# Altium schematic symbol library MCU_ST_STM32L0.SchLib: 245 symbols (part 1 of 5)
Pins are listed as number, name and electrical type; pins without a type are passive.

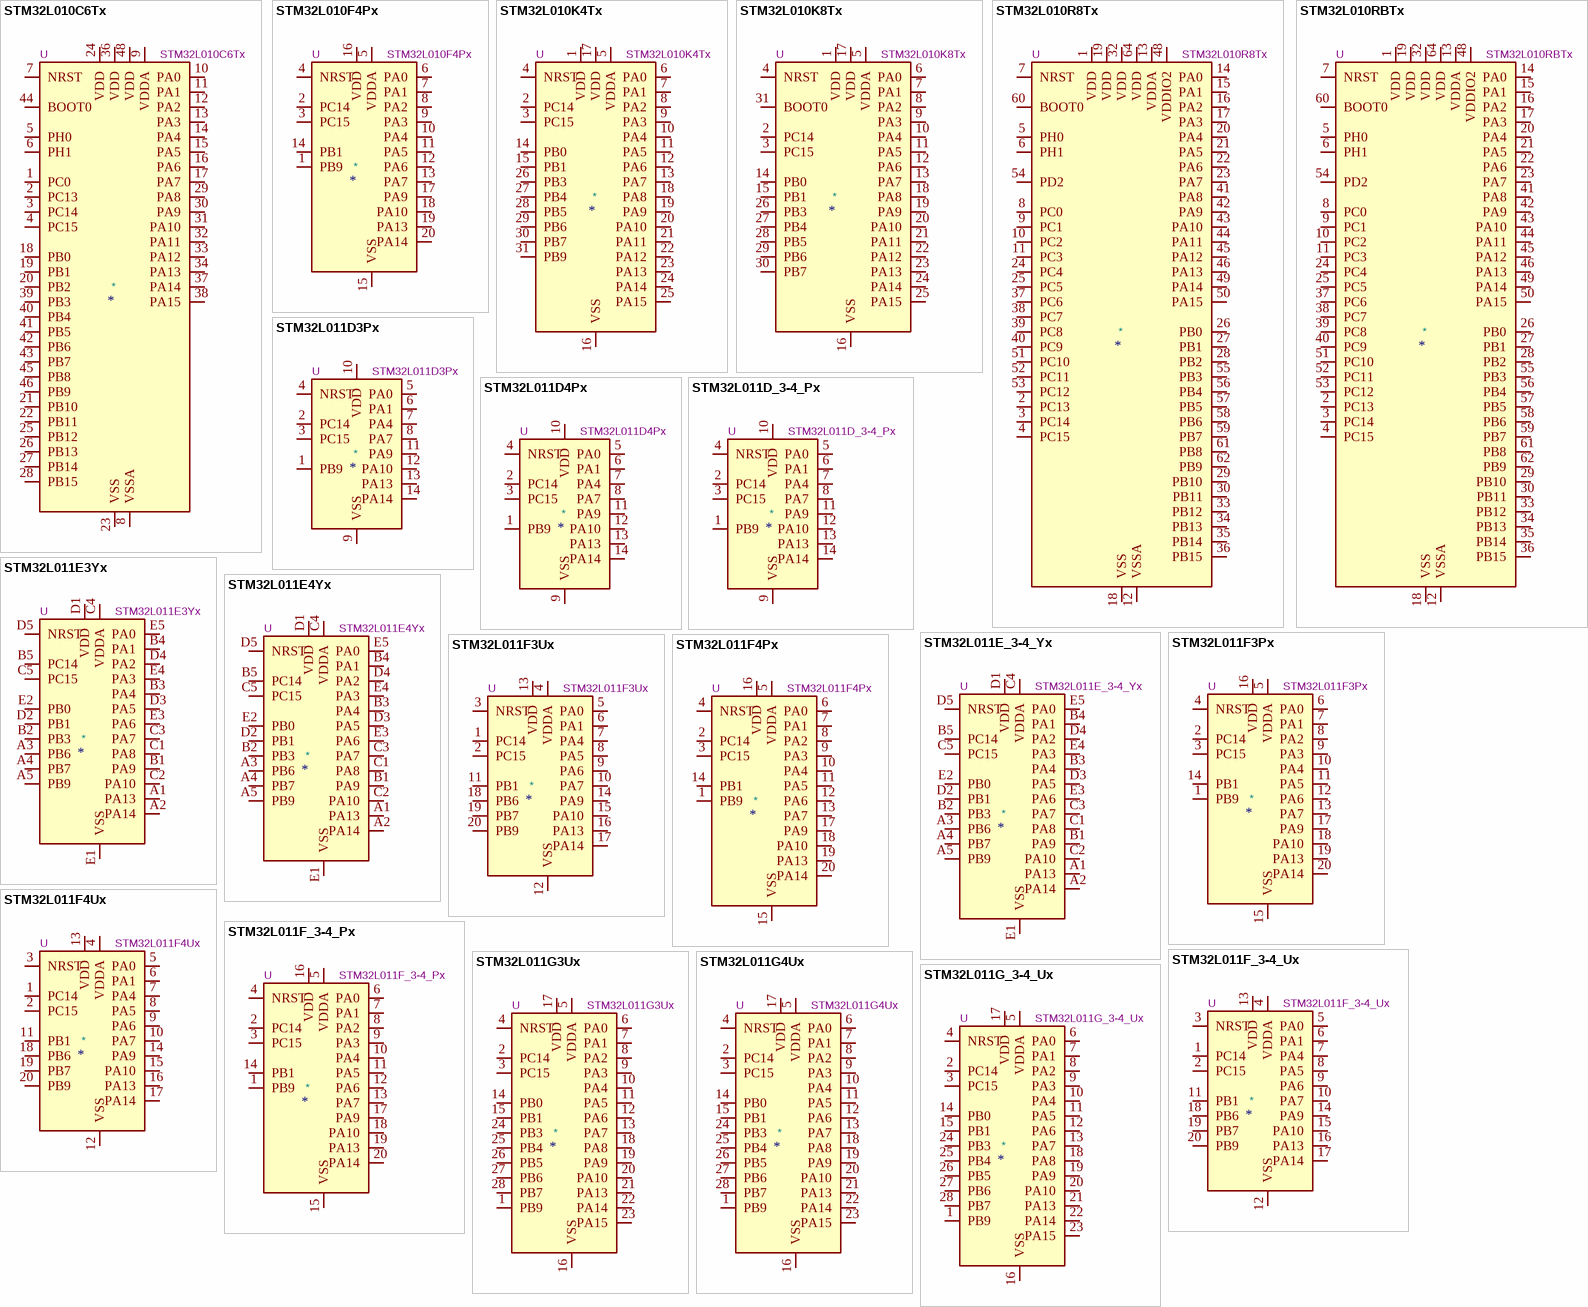
[diagram p0: symbols STM32L010C6Tx to STM32L011G_3-4_Ux]

## STM32L010C6Tx
designator *  value STM32L010C6Tx  Reference: U
ki_keywords: Arm Cortex-M0+ STM32L0 STM32L0x0 Value Line; ki_description: STMicroelectronics Arm Cortex-M0+ MCU, 32KB flash, 8KB RAM, 32 MHz, 1.8-3.6V, 38 GPIO, LQFP48; ki_fp_filters: LQFP*7x7mm*P0.5mm*; Footprint: Package_QFP:LQFP-48_7x7mm_P0.5mm; Datasheet: https://www.st.com/resource/en/datasheet/stm32l010c6.pdf
pins: 1 PC0, 2 PC13, 3 PC14, 4 PC15, 5 PH0, 6 PH1, 7 NRST, 8 VSSA, 9 VDDA, 10 PA0, 11 PA1, 12 PA2, 13 PA3, 14 PA4, 15 PA5, 16 PA6, 17 PA7, 18 PB0, 19 PB1, 20 PB2, 21 PB10, 22 PB11, 23 VSS, 24 VDD, 25 PB12, 26 PB13, 27 PB14, 28 PB15, 29 PA8, 30 PA9, 31 PA10, 32 PA11, 33 PA12, 34 PA13, 35 VSS hidden, 36 VDD, 37 PA14, 38 PA15, 39 PB3, 40 PB4, 41 PB5, 42 PB6, 43 PB7, 44 BOOT0, 45 PB8, 46 PB9, 47 VSS hidden, 48 VDD

## STM32L010F4Px
designator *  value STM32L010F4Px  Reference: U
ki_keywords: Arm Cortex-M0+ STM32L0 STM32L0x0 Value Line; ki_description: STMicroelectronics Arm Cortex-M0+ MCU, 16KB flash, 2KB RAM, 32 MHz, 1.8-3.6V, 16 GPIO, TSSOP20; ki_fp_filters: TSSOP*4.4x6.5mm*P0.65mm*; Footprint: Package_SO:TSSOP-20_4.4x6.5mm_P0.65mm; Datasheet: https://www.st.com/resource/en/datasheet/stm32l010f4.pdf
pins: 1 PB9, 2 PC14, 3 PC15, 4 NRST, 5 VDDA, 6 PA0, 7 PA1, 8 PA2, 9 PA3, 10 PA4, 11 PA5, 12 PA6, 13 PA7, 14 PB1, 15 VSS, 16 VDD, 17 PA9, 18 PA10, 19 PA13, 20 PA14

## STM32L010K4Tx
designator *  value STM32L010K4Tx  Reference: U
ki_keywords: Arm Cortex-M0+ STM32L0 STM32L0x0 Value Line; ki_description: STMicroelectronics Arm Cortex-M0+ MCU, 16KB flash, 2KB RAM, 32 MHz, 1.8-3.6V, 26 GPIO, LQFP32; ki_fp_filters: LQFP*7x7mm*P0.8mm*; Footprint: Package_QFP:LQFP-32_7x7mm_P0.8mm; Datasheet: https://www.st.com/resource/en/datasheet/stm32l010k4.pdf
pins: 1 VDD, 2 PC14, 3 PC15, 4 NRST, 5 VDDA, 6 PA0, 7 PA1, 8 PA2, 9 PA3, 10 PA4, 11 PA5, 12 PA6, 13 PA7, 14 PB0, 15 PB1, 16 VSS, 17 VDD, 18 PA8, 19 PA9, 20 PA10, 21 PA11, 22 PA12, 23 PA13, 24 PA14, 25 PA15, 26 PB3, 27 PB4, 28 PB5, 29 PB6, 30 PB7, 31 PB9, 32 VSS hidden

## STM32L010K8Tx
designator *  value STM32L010K8Tx  Reference: U
ki_keywords: Arm Cortex-M0+ STM32L0 STM32L0x0 Value Line; ki_description: STMicroelectronics Arm Cortex-M0+ MCU, 64KB flash, 8KB RAM, 32 MHz, 1.8-3.6V, 25 GPIO, LQFP32; ki_fp_filters: LQFP*7x7mm*P0.8mm*; Footprint: Package_QFP:LQFP-32_7x7mm_P0.8mm; Datasheet: https://www.st.com/resource/en/datasheet/stm32l010k8.pdf
pins: 1 VDD, 2 PC14, 3 PC15, 4 NRST, 5 VDDA, 6 PA0, 7 PA1, 8 PA2, 9 PA3, 10 PA4, 11 PA5, 12 PA6, 13 PA7, 14 PB0, 15 PB1, 16 VSS, 17 VDD, 18 PA8, 19 PA9, 20 PA10, 21 PA11, 22 PA12, 23 PA13, 24 PA14, 25 PA15, 26 PB3, 27 PB4, 28 PB5, 29 PB6, 30 PB7, 31 BOOT0, 32 VSS hidden

## STM32L010R8Tx
designator *  value STM32L010R8Tx  Reference: U
ki_keywords: Arm Cortex-M0+ STM32L0 STM32L0x0 Value Line; ki_description: STMicroelectronics Arm Cortex-M0+ MCU, 64KB flash, 8KB RAM, 32 MHz, 1.8-3.6V, 51 GPIO, LQFP64; ki_fp_filters: LQFP*10x10mm*P0.5mm*; Footprint: Package_QFP:LQFP-64_10x10mm_P0.5mm; Datasheet: https://www.st.com/resource/en/datasheet/stm32l010r8.pdf
pins: 1 VDD, 2 PC13, 3 PC14, 4 PC15, 5 PH0, 6 PH1, 7 NRST, 8 PC0, 9 PC1, 10 PC2, 11 PC3, 12 VSSA, 13 VDDA, 14 PA0, 15 PA1, 16 PA2, 17 PA3, 18 VSS, 19 VDD, 20 PA4, 21 PA5, 22 PA6, 23 PA7, 24 PC4, 25 PC5, 26 PB0, 27 PB1, 28 PB2, 29 PB10, 30 PB11, 31 VSS hidden, 32 VDD, 33 PB12, 34 PB13, 35 PB14, 36 PB15, 37 PC6, 38 PC7, 39 PC8, 40 PC9, 41 PA8, 42 PA9, 43 PA10, 44 PA11, 45 PA12, 46 PA13, 47 VSS hidden, 48 VDDIO2, 49 PA14, 50 PA15, 51 PC10, 52 PC11, 53 PC12, 54 PD2, 55 PB3, 56 PB4, 57 PB5, 58 PB6, 59 PB7, 60 BOOT0, 61 PB8, 62 PB9, 63 VSS hidden, 64 VDD

## STM32L010RBTx
designator *  value STM32L010RBTx  Reference: U
ki_keywords: Arm Cortex-M0+ STM32L0 STM32L0x0 Value Line; ki_description: STMicroelectronics Arm Cortex-M0+ MCU, 128KB flash, 20KB RAM, 32 MHz, 1.8-3.6V, 51 GPIO, LQFP64; ki_fp_filters: LQFP*10x10mm*P0.5mm*; Footprint: Package_QFP:LQFP-64_10x10mm_P0.5mm; Datasheet: https://www.st.com/resource/en/datasheet/stm32l010rb.pdf
pins: 1 VDD, 2 PC13, 3 PC14, 4 PC15, 5 PH0, 6 PH1, 7 NRST, 8 PC0, 9 PC1, 10 PC2, 11 PC3, 12 VSSA, 13 VDDA, 14 PA0, 15 PA1, 16 PA2, 17 PA3, 18 VSS, 19 VDD, 20 PA4, 21 PA5, 22 PA6, 23 PA7, 24 PC4, 25 PC5, 26 PB0, 27 PB1, 28 PB2, 29 PB10, 30 PB11, 31 VSS hidden, 32 VDD, 33 PB12, 34 PB13, 35 PB14, 36 PB15, 37 PC6, 38 PC7, 39 PC8, 40 PC9, 41 PA8, 42 PA9, 43 PA10, 44 PA11, 45 PA12, 46 PA13, 47 VSS hidden, 48 VDDIO2, 49 PA14, 50 PA15, 51 PC10, 52 PC11, 53 PC12, 54 PD2, 55 PB3, 56 PB4, 57 PB5, 58 PB6, 59 PB7, 60 BOOT0, 61 PB8, 62 PB9, 63 VSS hidden, 64 VDD

## STM32L011D3Px
designator *  value STM32L011D3Px  Reference: U
ki_keywords: Arm Cortex-M0+ STM32L0 STM32L0x1; ki_description: STMicroelectronics Arm Cortex-M0+ MCU, 8KB flash, 2KB RAM, 32 MHz, 1.65-3.6V, 11 GPIO, TSSOP14; ki_fp_filters: TSSOP*4.4x5mm*P0.65mm*; Footprint: Package_SO:TSSOP-14_4.4x5mm_P0.65mm; Datasheet: https://www.st.com/resource/en/datasheet/stm32l011d3.pdf
pins: 1 PB9, 2 PC14, 3 PC15, 4 NRST, 5 PA0, 6 PA1, 7 PA4, 8 PA7, 9 VSS, 10 VDD, 11 PA9, 12 PA10, 13 PA13, 14 PA14

## STM32L011D4Px
designator *  value STM32L011D4Px  Reference: U
ki_keywords: Arm Cortex-M0+ STM32L0 STM32L0x1; ki_description: STMicroelectronics Arm Cortex-M0+ MCU, 16KB flash, 2KB RAM, 32 MHz, 1.65-3.6V, 11 GPIO, TSSOP14; ki_fp_filters: TSSOP*4.4x5mm*P0.65mm*; Footprint: Package_SO:TSSOP-14_4.4x5mm_P0.65mm; Datasheet: https://www.st.com/resource/en/datasheet/stm32l011d4.pdf
pins: 1 PB9, 2 PC14, 3 PC15, 4 NRST, 5 PA0, 6 PA1, 7 PA4, 8 PA7, 9 VSS, 10 VDD, 11 PA9, 12 PA10, 13 PA13, 14 PA14

## STM32L011D_3-4_Px
designator *  value STM32L011D_3-4_Px  Reference: U
ki_keywords: Arm Cortex-M0+ STM32L0 STM32L0x1; ki_description: STMicroelectronics Arm Cortex-M0+ MCU, 8-16KB flash, 2KB RAM, 32 MHz, 1.65-3.6V, 11 GPIO, TSSOP14; ki_fp_filters: TSSOP*4.4x5mm*P0.65mm*; Footprint: Package_SO:TSSOP-14_4.4x5mm_P0.65mm; Datasheet: https://www.st.com/resource/en/datasheet/stm32l011d3.pdf
pins: 1 PB9, 2 PC14, 3 PC15, 4 NRST, 5 PA0, 6 PA1, 7 PA4, 8 PA7, 9 VSS, 10 VDD, 11 PA9, 12 PA10, 13 PA13, 14 PA14

## STM32L011E3Yx
designator *  value STM32L011E3Yx  Reference: U
ki_keywords: Arm Cortex-M0+ STM32L0 STM32L0x1; ki_description: STMicroelectronics Arm Cortex-M0+ MCU, 8KB flash, 2KB RAM, 32 MHz, 1.65-3.6V, 21 GPIO, WLCSP25; ki_fp_filters: ST*WLCSP*Die457*; Footprint: Package_CSP:ST_WLCSP-25_Die457; Datasheet: https://www.st.com/resource/en/datasheet/stm32l011e3.pdf
pins: A1 PA13, A2 PA14, A3 PB6, A4 PB7, A5 PB9, B1 PA9, B2 PB3, B3 PA4, B4 PA1, B5 PC14, C1 PA8, C2 PA10, C3 PA7, C4 VDDA, C5 PC15, D1 VDD, D2 PB1, D3 PA5, D4 PA2, D5 NRST, E1 VSS, E2 PB0, E3 PA6, E4 PA3, E5 PA0

## STM32L011E4Yx
designator *  value STM32L011E4Yx  Reference: U
ki_keywords: Arm Cortex-M0+ STM32L0 STM32L0x1; ki_description: STMicroelectronics Arm Cortex-M0+ MCU, 16KB flash, 2KB RAM, 32 MHz, 1.65-3.6V, 21 GPIO, WLCSP25; ki_fp_filters: ST*WLCSP*Die457*; Footprint: Package_CSP:ST_WLCSP-25_Die457; Datasheet: https://www.st.com/resource/en/datasheet/stm32l011e4.pdf
pins: A1 PA13, A2 PA14, A3 PB6, A4 PB7, A5 PB9, B1 PA9, B2 PB3, B3 PA4, B4 PA1, B5 PC14, C1 PA8, C2 PA10, C3 PA7, C4 VDDA, C5 PC15, D1 VDD, D2 PB1, D3 PA5, D4 PA2, D5 NRST, E1 VSS, E2 PB0, E3 PA6, E4 PA3, E5 PA0

## STM32L011E_3-4_Yx
designator *  value STM32L011E_3-4_Yx  Reference: U
ki_keywords: Arm Cortex-M0+ STM32L0 STM32L0x1; ki_description: STMicroelectronics Arm Cortex-M0+ MCU, 8-16KB flash, 2KB RAM, 32 MHz, 1.65-3.6V, 21 GPIO, WLCSP25; ki_fp_filters: ST*WLCSP*Die457*; Footprint: Package_CSP:ST_WLCSP-25_Die457; Datasheet: https://www.st.com/resource/en/datasheet/stm32l011e3.pdf
pins: A1 PA13, A2 PA14, A3 PB6, A4 PB7, A5 PB9, B1 PA9, B2 PB3, B3 PA4, B4 PA1, B5 PC14, C1 PA8, C2 PA10, C3 PA7, C4 VDDA, C5 PC15, D1 VDD, D2 PB1, D3 PA5, D4 PA2, D5 NRST, E1 VSS, E2 PB0, E3 PA6, E4 PA3, E5 PA0

## STM32L011F3Px
designator *  value STM32L011F3Px  Reference: U
ki_keywords: Arm Cortex-M0+ STM32L0 STM32L0x1; ki_description: STMicroelectronics Arm Cortex-M0+ MCU, 8KB flash, 2KB RAM, 32 MHz, 1.65-3.6V, 16 GPIO, TSSOP20; ki_fp_filters: TSSOP*4.4x6.5mm*P0.65mm*; Footprint: Package_SO:TSSOP-20_4.4x6.5mm_P0.65mm; Datasheet: https://www.st.com/resource/en/datasheet/stm32l011f3.pdf
pins: 1 PB9, 2 PC14, 3 PC15, 4 NRST, 5 VDDA, 6 PA0, 7 PA1, 8 PA2, 9 PA3, 10 PA4, 11 PA5, 12 PA6, 13 PA7, 14 PB1, 15 VSS, 16 VDD, 17 PA9, 18 PA10, 19 PA13, 20 PA14

## STM32L011F3Ux
designator *  value STM32L011F3Ux  Reference: U
ki_keywords: Arm Cortex-M0+ STM32L0 STM32L0x1; ki_description: STMicroelectronics Arm Cortex-M0+ MCU, 8KB flash, 2KB RAM, 32 MHz, 1.65-3.6V, 16 GPIO, UFQFPN20; ki_fp_filters: ST*UFQFPN*3x3mm*P0.5mm*; Footprint: Package_DFN_QFN:ST_UFQFPN-20_3x3mm_P0.5mm; Datasheet: https://www.st.com/resource/en/datasheet/stm32l011f3.pdf
pins: 1 PC14, 2 PC15, 3 NRST, 4 VDDA, 5 PA0, 6 PA1, 7 PA4, 8 PA5, 9 PA6, 10 PA7, 11 PB1, 12 VSS, 13 VDD, 14 PA9, 15 PA10, 16 PA13, 17 PA14, 18 PB6, 19 PB7, 20 PB9

## STM32L011F4Px
designator *  value STM32L011F4Px  Reference: U
ki_keywords: Arm Cortex-M0+ STM32L0 STM32L0x1; ki_description: STMicroelectronics Arm Cortex-M0+ MCU, 16KB flash, 2KB RAM, 32 MHz, 1.65-3.6V, 16 GPIO, TSSOP20; ki_fp_filters: TSSOP*4.4x6.5mm*P0.65mm*; Footprint: Package_SO:TSSOP-20_4.4x6.5mm_P0.65mm; Datasheet: https://www.st.com/resource/en/datasheet/stm32l011f4.pdf
pins: 1 PB9, 2 PC14, 3 PC15, 4 NRST, 5 VDDA, 6 PA0, 7 PA1, 8 PA2, 9 PA3, 10 PA4, 11 PA5, 12 PA6, 13 PA7, 14 PB1, 15 VSS, 16 VDD, 17 PA9, 18 PA10, 19 PA13, 20 PA14

## STM32L011F4Ux
designator *  value STM32L011F4Ux  Reference: U
ki_keywords: Arm Cortex-M0+ STM32L0 STM32L0x1; ki_description: STMicroelectronics Arm Cortex-M0+ MCU, 16KB flash, 2KB RAM, 32 MHz, 1.65-3.6V, 16 GPIO, UFQFPN20; ki_fp_filters: ST*UFQFPN*3x3mm*P0.5mm*; Footprint: Package_DFN_QFN:ST_UFQFPN-20_3x3mm_P0.5mm; Datasheet: https://www.st.com/resource/en/datasheet/stm32l011f4.pdf
pins: 1 PC14, 2 PC15, 3 NRST, 4 VDDA, 5 PA0, 6 PA1, 7 PA4, 8 PA5, 9 PA6, 10 PA7, 11 PB1, 12 VSS, 13 VDD, 14 PA9, 15 PA10, 16 PA13, 17 PA14, 18 PB6, 19 PB7, 20 PB9

## STM32L011F_3-4_Px
designator *  value STM32L011F_3-4_Px  Reference: U
ki_keywords: Arm Cortex-M0+ STM32L0 STM32L0x1; ki_description: STMicroelectronics Arm Cortex-M0+ MCU, 8-16KB flash, 2KB RAM, 32 MHz, 1.65-3.6V, 16 GPIO, TSSOP20; ki_fp_filters: TSSOP*4.4x6.5mm*P0.65mm*; Footprint: Package_SO:TSSOP-20_4.4x6.5mm_P0.65mm; Datasheet: https://www.st.com/resource/en/datasheet/stm32l011f3.pdf
pins: 1 PB9, 2 PC14, 3 PC15, 4 NRST, 5 VDDA, 6 PA0, 7 PA1, 8 PA2, 9 PA3, 10 PA4, 11 PA5, 12 PA6, 13 PA7, 14 PB1, 15 VSS, 16 VDD, 17 PA9, 18 PA10, 19 PA13, 20 PA14

## STM32L011F_3-4_Ux
designator *  value STM32L011F_3-4_Ux  Reference: U
ki_keywords: Arm Cortex-M0+ STM32L0 STM32L0x1; ki_description: STMicroelectronics Arm Cortex-M0+ MCU, 8-16KB flash, 2KB RAM, 32 MHz, 1.65-3.6V, 16 GPIO, UFQFPN20; ki_fp_filters: ST*UFQFPN*3x3mm*P0.5mm*; Footprint: Package_DFN_QFN:ST_UFQFPN-20_3x3mm_P0.5mm; Datasheet: https://www.st.com/resource/en/datasheet/stm32l011f3.pdf
pins: 1 PC14, 2 PC15, 3 NRST, 4 VDDA, 5 PA0, 6 PA1, 7 PA4, 8 PA5, 9 PA6, 10 PA7, 11 PB1, 12 VSS, 13 VDD, 14 PA9, 15 PA10, 16 PA13, 17 PA14, 18 PB6, 19 PB7, 20 PB9

## STM32L011G3Ux
designator *  value STM32L011G3Ux  Reference: U
ki_keywords: Arm Cortex-M0+ STM32L0 STM32L0x1; ki_description: STMicroelectronics Arm Cortex-M0+ MCU, 8KB flash, 2KB RAM, 32 MHz, 1.65-3.6V, 24 GPIO, UFQFPN28; ki_fp_filters: QFN*4x4mm*P0.5mm*; Footprint: Package_DFN_QFN:QFN-28_4x4mm_P0.5mm; Datasheet: https://www.st.com/resource/en/datasheet/stm32l011g3.pdf
pins: 1 PB9, 2 PC14, 3 PC15, 4 NRST, 5 VDDA, 6 PA0, 7 PA1, 8 PA2, 9 PA3, 10 PA4, 11 PA5, 12 PA6, 13 PA7, 14 PB0, 15 PB1, 16 VSS, 17 VDD, 18 PA8, 19 PA9, 20 PA10, 21 PA13, 22 PA14, 23 PA15, 24 PB3, 25 PB4, 26 PB5, 27 PB6, 28 PB7

## STM32L011G4Ux
designator *  value STM32L011G4Ux  Reference: U
ki_keywords: Arm Cortex-M0+ STM32L0 STM32L0x1; ki_description: STMicroelectronics Arm Cortex-M0+ MCU, 16KB flash, 2KB RAM, 32 MHz, 1.65-3.6V, 24 GPIO, UFQFPN28; ki_fp_filters: QFN*4x4mm*P0.5mm*; Footprint: Package_DFN_QFN:QFN-28_4x4mm_P0.5mm; Datasheet: https://www.st.com/resource/en/datasheet/stm32l011g4.pdf
pins: 1 PB9, 2 PC14, 3 PC15, 4 NRST, 5 VDDA, 6 PA0, 7 PA1, 8 PA2, 9 PA3, 10 PA4, 11 PA5, 12 PA6, 13 PA7, 14 PB0, 15 PB1, 16 VSS, 17 VDD, 18 PA8, 19 PA9, 20 PA10, 21 PA13, 22 PA14, 23 PA15, 24 PB3, 25 PB4, 26 PB5, 27 PB6, 28 PB7

## STM32L011G_3-4_Ux
designator *  value STM32L011G_3-4_Ux  Reference: U
ki_keywords: Arm Cortex-M0+ STM32L0 STM32L0x1; ki_description: STMicroelectronics Arm Cortex-M0+ MCU, 8-16KB flash, 2KB RAM, 32 MHz, 1.65-3.6V, 24 GPIO, UFQFPN28; ki_fp_filters: QFN*4x4mm*P0.5mm*; Footprint: Package_DFN_QFN:QFN-28_4x4mm_P0.5mm; Datasheet: https://www.st.com/resource/en/datasheet/stm32l011g3.pdf
pins: 1 PB9, 2 PC14, 3 PC15, 4 NRST, 5 VDDA, 6 PA0, 7 PA1, 8 PA2, 9 PA3, 10 PA4, 11 PA5, 12 PA6, 13 PA7, 14 PB0, 15 PB1, 16 VSS, 17 VDD, 18 PA8, 19 PA9, 20 PA10, 21 PA13, 22 PA14, 23 PA15, 24 PB3, 25 PB4, 26 PB5, 27 PB6, 28 PB7

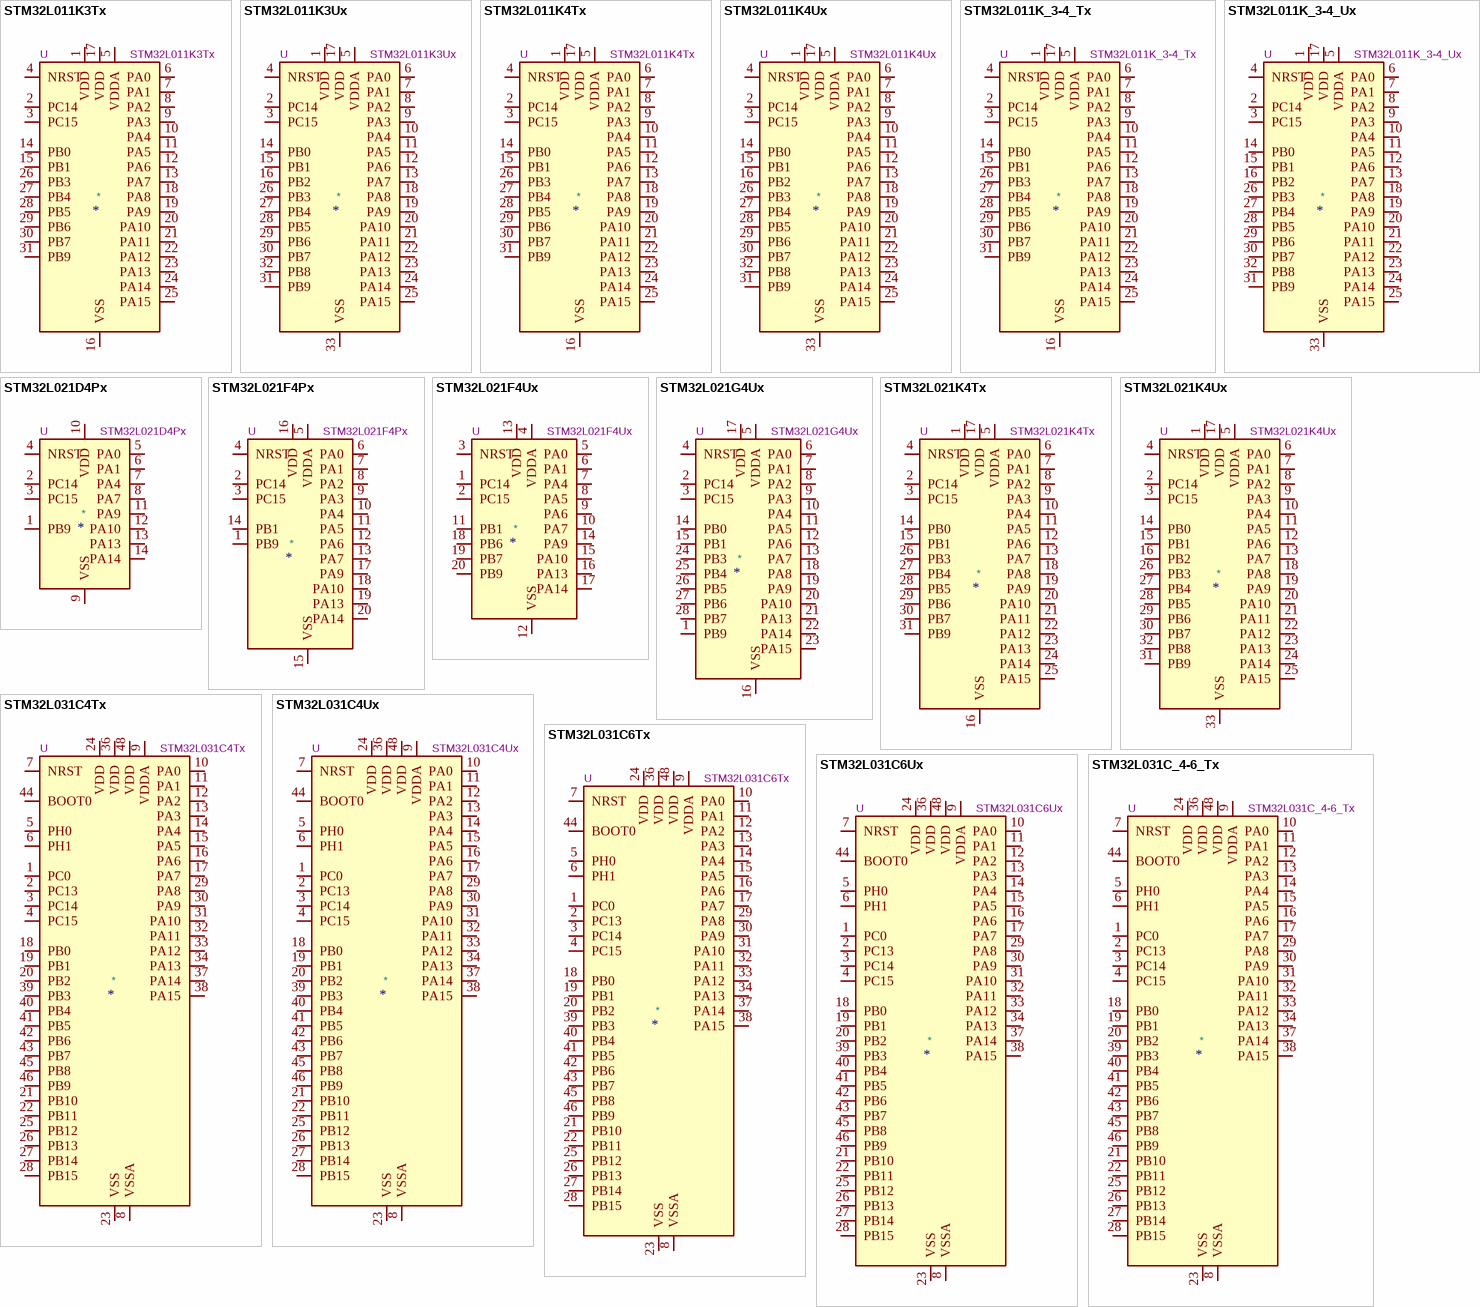
[diagram p1: symbols STM32L011K3Tx to STM32L031C_4-6_Tx]

## STM32L011K3Tx
designator *  value STM32L011K3Tx  Reference: U
ki_keywords: Arm Cortex-M0+ STM32L0 STM32L0x1; ki_description: STMicroelectronics Arm Cortex-M0+ MCU, 8KB flash, 2KB RAM, 32 MHz, 1.65-3.6V, 26 GPIO, LQFP32; ki_fp_filters: LQFP*7x7mm*P0.8mm*; Footprint: Package_QFP:LQFP-32_7x7mm_P0.8mm; Datasheet: https://www.st.com/resource/en/datasheet/stm32l011k3.pdf
pins: 1 VDD, 2 PC14, 3 PC15, 4 NRST, 5 VDDA, 6 PA0, 7 PA1, 8 PA2, 9 PA3, 10 PA4, 11 PA5, 12 PA6, 13 PA7, 14 PB0, 15 PB1, 16 VSS, 17 VDD, 18 PA8, 19 PA9, 20 PA10, 21 PA11, 22 PA12, 23 PA13, 24 PA14, 25 PA15, 26 PB3, 27 PB4, 28 PB5, 29 PB6, 30 PB7, 31 PB9, 32 VSS hidden

## STM32L011K3Ux
designator *  value STM32L011K3Ux  Reference: U
ki_keywords: Arm Cortex-M0+ STM32L0 STM32L0x1; ki_description: STMicroelectronics Arm Cortex-M0+ MCU, 8KB flash, 2KB RAM, 32 MHz, 1.65-3.6V, 28 GPIO, UFQFPN32; ki_fp_filters: QFN*1EP*5x5mm*P0.5mm*; Footprint: Package_DFN_QFN:QFN-32-1EP_5x5mm_P0.5mm_EP3.45x3.45mm; Datasheet: https://www.st.com/resource/en/datasheet/stm32l011k3.pdf
pins: 1 VDD, 2 PC14, 3 PC15, 4 NRST, 5 VDDA, 6 PA0, 7 PA1, 8 PA2, 9 PA3, 10 PA4, 11 PA5, 12 PA6, 13 PA7, 14 PB0, 15 PB1, 16 PB2, 17 VDD, 18 PA8, 19 PA9, 20 PA10, 21 PA11, 22 PA12, 23 PA13, 24 PA14, 25 PA15, 26 PB3, 27 PB4, 28 PB5, 29 PB6, 30 PB7, 31 PB9, 32 PB8, 33 VSS

## STM32L011K4Tx
designator *  value STM32L011K4Tx  Reference: U
ki_keywords: Arm Cortex-M0+ STM32L0 STM32L0x1; ki_description: STMicroelectronics Arm Cortex-M0+ MCU, 16KB flash, 2KB RAM, 32 MHz, 1.65-3.6V, 26 GPIO, LQFP32; ki_fp_filters: LQFP*7x7mm*P0.8mm*; Footprint: Package_QFP:LQFP-32_7x7mm_P0.8mm; Datasheet: https://www.st.com/resource/en/datasheet/stm32l011k4.pdf
pins: 1 VDD, 2 PC14, 3 PC15, 4 NRST, 5 VDDA, 6 PA0, 7 PA1, 8 PA2, 9 PA3, 10 PA4, 11 PA5, 12 PA6, 13 PA7, 14 PB0, 15 PB1, 16 VSS, 17 VDD, 18 PA8, 19 PA9, 20 PA10, 21 PA11, 22 PA12, 23 PA13, 24 PA14, 25 PA15, 26 PB3, 27 PB4, 28 PB5, 29 PB6, 30 PB7, 31 PB9, 32 VSS hidden

## STM32L011K4Ux
designator *  value STM32L011K4Ux  Reference: U
ki_keywords: Arm Cortex-M0+ STM32L0 STM32L0x1; ki_description: STMicroelectronics Arm Cortex-M0+ MCU, 16KB flash, 2KB RAM, 32 MHz, 1.65-3.6V, 28 GPIO, UFQFPN32; ki_fp_filters: QFN*1EP*5x5mm*P0.5mm*; Footprint: Package_DFN_QFN:QFN-32-1EP_5x5mm_P0.5mm_EP3.45x3.45mm; Datasheet: https://www.st.com/resource/en/datasheet/stm32l011k4.pdf
pins: 1 VDD, 2 PC14, 3 PC15, 4 NRST, 5 VDDA, 6 PA0, 7 PA1, 8 PA2, 9 PA3, 10 PA4, 11 PA5, 12 PA6, 13 PA7, 14 PB0, 15 PB1, 16 PB2, 17 VDD, 18 PA8, 19 PA9, 20 PA10, 21 PA11, 22 PA12, 23 PA13, 24 PA14, 25 PA15, 26 PB3, 27 PB4, 28 PB5, 29 PB6, 30 PB7, 31 PB9, 32 PB8, 33 VSS

## STM32L011K_3-4_Tx
designator *  value STM32L011K_3-4_Tx  Reference: U
ki_keywords: Arm Cortex-M0+ STM32L0 STM32L0x1; ki_description: STMicroelectronics Arm Cortex-M0+ MCU, 8-16KB flash, 2KB RAM, 32 MHz, 1.65-3.6V, 26 GPIO, LQFP32; ki_fp_filters: LQFP*7x7mm*P0.8mm*; Footprint: Package_QFP:LQFP-32_7x7mm_P0.8mm; Datasheet: https://www.st.com/resource/en/datasheet/stm32l011k3.pdf
pins: 1 VDD, 2 PC14, 3 PC15, 4 NRST, 5 VDDA, 6 PA0, 7 PA1, 8 PA2, 9 PA3, 10 PA4, 11 PA5, 12 PA6, 13 PA7, 14 PB0, 15 PB1, 16 VSS, 17 VDD, 18 PA8, 19 PA9, 20 PA10, 21 PA11, 22 PA12, 23 PA13, 24 PA14, 25 PA15, 26 PB3, 27 PB4, 28 PB5, 29 PB6, 30 PB7, 31 PB9, 32 VSS hidden

## STM32L011K_3-4_Ux
designator *  value STM32L011K_3-4_Ux  Reference: U
ki_keywords: Arm Cortex-M0+ STM32L0 STM32L0x1; ki_description: STMicroelectronics Arm Cortex-M0+ MCU, 8-16KB flash, 2KB RAM, 32 MHz, 1.65-3.6V, 28 GPIO, UFQFPN32; ki_fp_filters: QFN*1EP*5x5mm*P0.5mm*; Footprint: Package_DFN_QFN:QFN-32-1EP_5x5mm_P0.5mm_EP3.45x3.45mm; Datasheet: https://www.st.com/resource/en/datasheet/stm32l011k3.pdf
pins: 1 VDD, 2 PC14, 3 PC15, 4 NRST, 5 VDDA, 6 PA0, 7 PA1, 8 PA2, 9 PA3, 10 PA4, 11 PA5, 12 PA6, 13 PA7, 14 PB0, 15 PB1, 16 PB2, 17 VDD, 18 PA8, 19 PA9, 20 PA10, 21 PA11, 22 PA12, 23 PA13, 24 PA14, 25 PA15, 26 PB3, 27 PB4, 28 PB5, 29 PB6, 30 PB7, 31 PB9, 32 PB8, 33 VSS

## STM32L021D4Px
designator *  value STM32L021D4Px  Reference: U
ki_keywords: Arm Cortex-M0+ STM32L0 STM32L0x1; ki_description: STMicroelectronics Arm Cortex-M0+ MCU, 16KB flash, 2KB RAM, 32 MHz, 1.65-3.6V, 11 GPIO, TSSOP14; ki_fp_filters: TSSOP*4.4x5mm*P0.65mm*; Footprint: Package_SO:TSSOP-14_4.4x5mm_P0.65mm; Datasheet: https://www.st.com/resource/en/datasheet/stm32l021d4.pdf
pins: 1 PB9, 2 PC14, 3 PC15, 4 NRST, 5 PA0, 6 PA1, 7 PA4, 8 PA7, 9 VSS, 10 VDD, 11 PA9, 12 PA10, 13 PA13, 14 PA14

## STM32L021F4Px
designator *  value STM32L021F4Px  Reference: U
ki_keywords: Arm Cortex-M0+ STM32L0 STM32L0x1; ki_description: STMicroelectronics Arm Cortex-M0+ MCU, 16KB flash, 2KB RAM, 16 GPIO, TSSOP20; ki_fp_filters: TSSOP*4.4x6.5mm*P0.65mm*; Footprint: Package_SO:TSSOP-20_4.4x6.5mm_P0.65mm; Datasheet: https://www.st.com/resource/en/datasheet/stm32l021f4.pdf
pins: 1 PB9, 2 PC14, 3 PC15, 4 NRST, 5 VDDA, 6 PA0, 7 PA1, 8 PA2, 9 PA3, 10 PA4, 11 PA5, 12 PA6, 13 PA7, 14 PB1, 15 VSS, 16 VDD, 17 PA9, 18 PA10, 19 PA13, 20 PA14

## STM32L021F4Ux
designator *  value STM32L021F4Ux  Reference: U
ki_keywords: Arm Cortex-M0+ STM32L0 STM32L0x1; ki_description: STMicroelectronics Arm Cortex-M0+ MCU, 16KB flash, 2KB RAM, 32 MHz, 1.65-3.6V, 16 GPIO, UFQFPN20; ki_fp_filters: ST*UFQFPN*3x3mm*P0.5mm*; Footprint: Package_DFN_QFN:ST_UFQFPN-20_3x3mm_P0.5mm; Datasheet: https://www.st.com/resource/en/datasheet/stm32l021f4.pdf
pins: 1 PC14, 2 PC15, 3 NRST, 4 VDDA, 5 PA0, 6 PA1, 7 PA4, 8 PA5, 9 PA6, 10 PA7, 11 PB1, 12 VSS, 13 VDD, 14 PA9, 15 PA10, 16 PA13, 17 PA14, 18 PB6, 19 PB7, 20 PB9

## STM32L021G4Ux
designator *  value STM32L021G4Ux  Reference: U
ki_keywords: Arm Cortex-M0+ STM32L0 STM32L0x1; ki_description: STMicroelectronics Arm Cortex-M0+ MCU, 16KB flash, 2KB RAM, 32 MHz, 1.65-3.6V, 24 GPIO, UFQFPN28; ki_fp_filters: QFN*4x4mm*P0.5mm*; Footprint: Package_DFN_QFN:QFN-28_4x4mm_P0.5mm; Datasheet: https://www.st.com/resource/en/datasheet/stm32l021g4.pdf
pins: 1 PB9, 2 PC14, 3 PC15, 4 NRST, 5 VDDA, 6 PA0, 7 PA1, 8 PA2, 9 PA3, 10 PA4, 11 PA5, 12 PA6, 13 PA7, 14 PB0, 15 PB1, 16 VSS, 17 VDD, 18 PA8, 19 PA9, 20 PA10, 21 PA13, 22 PA14, 23 PA15, 24 PB3, 25 PB4, 26 PB5, 27 PB6, 28 PB7

## STM32L021K4Tx
designator *  value STM32L021K4Tx  Reference: U
ki_keywords: Arm Cortex-M0+ STM32L0 STM32L0x1; ki_description: STMicroelectronics Arm Cortex-M0+ MCU, 16KB flash, 2KB RAM, 32 MHz, 1.65-3.6V, 26 GPIO, LQFP32; ki_fp_filters: LQFP*7x7mm*P0.8mm*; Footprint: Package_QFP:LQFP-32_7x7mm_P0.8mm; Datasheet: https://www.st.com/resource/en/datasheet/stm32l021k4.pdf
pins: 1 VDD, 2 PC14, 3 PC15, 4 NRST, 5 VDDA, 6 PA0, 7 PA1, 8 PA2, 9 PA3, 10 PA4, 11 PA5, 12 PA6, 13 PA7, 14 PB0, 15 PB1, 16 VSS, 17 VDD, 18 PA8, 19 PA9, 20 PA10, 21 PA11, 22 PA12, 23 PA13, 24 PA14, 25 PA15, 26 PB3, 27 PB4, 28 PB5, 29 PB6, 30 PB7, 31 PB9, 32 VSS hidden

## STM32L021K4Ux
designator *  value STM32L021K4Ux  Reference: U
ki_keywords: Arm Cortex-M0+ STM32L0 STM32L0x1; ki_description: STMicroelectronics Arm Cortex-M0+ MCU, 16KB flash, 2KB RAM, 28 GPIO, UFQFPN32; ki_fp_filters: QFN*1EP*5x5mm*P0.5mm*; Footprint: Package_DFN_QFN:QFN-32-1EP_5x5mm_P0.5mm_EP3.45x3.45mm; Datasheet: https://www.st.com/resource/en/datasheet/stm32l021k4.pdf
pins: 1 VDD, 2 PC14, 3 PC15, 4 NRST, 5 VDDA, 6 PA0, 7 PA1, 8 PA2, 9 PA3, 10 PA4, 11 PA5, 12 PA6, 13 PA7, 14 PB0, 15 PB1, 16 PB2, 17 VDD, 18 PA8, 19 PA9, 20 PA10, 21 PA11, 22 PA12, 23 PA13, 24 PA14, 25 PA15, 26 PB3, 27 PB4, 28 PB5, 29 PB6, 30 PB7, 31 PB9, 32 PB8, 33 VSS

## STM32L031C4Tx
designator *  value STM32L031C4Tx  Reference: U
ki_keywords: Arm Cortex-M0+ STM32L0 STM32L0x1; ki_description: STMicroelectronics Arm Cortex-M0+ MCU, 16KB flash, 8KB RAM, 32 MHz, 1.65-3.6V, 38 GPIO, LQFP48; ki_fp_filters: LQFP*7x7mm*P0.5mm*; Footprint: Package_QFP:LQFP-48_7x7mm_P0.5mm; Datasheet: https://www.st.com/resource/en/datasheet/stm32l031c4.pdf
pins: 1 PC0, 2 PC13, 3 PC14, 4 PC15, 5 PH0, 6 PH1, 7 NRST, 8 VSSA, 9 VDDA, 10 PA0, 11 PA1, 12 PA2, 13 PA3, 14 PA4, 15 PA5, 16 PA6, 17 PA7, 18 PB0, 19 PB1, 20 PB2, 21 PB10, 22 PB11, 23 VSS, 24 VDD, 25 PB12, 26 PB13, 27 PB14, 28 PB15, 29 PA8, 30 PA9, 31 PA10, 32 PA11, 33 PA12, 34 PA13, 35 VSS hidden, 36 VDD, 37 PA14, 38 PA15, 39 PB3, 40 PB4, 41 PB5, 42 PB6, 43 PB7, 44 BOOT0, 45 PB8, 46 PB9, 47 VSS hidden, 48 VDD

## STM32L031C4Ux
designator *  value STM32L031C4Ux  Reference: U
ki_keywords: Arm Cortex-M0+ STM32L0 STM32L0x1; ki_description: STMicroelectronics Arm Cortex-M0+ MCU, 16KB flash, 8KB RAM, 32 MHz, 1.65-3.6V, 38 GPIO, UFQFPN48; ki_fp_filters: QFN*1EP*7x7mm*P0.5mm*; Footprint: Package_DFN_QFN:QFN-48-1EP_7x7mm_P0.5mm_EP5.6x5.6mm; Datasheet: https://www.st.com/resource/en/datasheet/stm32l031c4.pdf
pins: 1 PC0, 2 PC13, 3 PC14, 4 PC15, 5 PH0, 6 PH1, 7 NRST, 8 VSSA, 9 VDDA, 10 PA0, 11 PA1, 12 PA2, 13 PA3, 14 PA4, 15 PA5, 16 PA6, 17 PA7, 18 PB0, 19 PB1, 20 PB2, 21 PB10, 22 PB11, 23 VSS, 24 VDD, 25 PB12, 26 PB13, 27 PB14, 28 PB15, 29 PA8, 30 PA9, 31 PA10, 32 PA11, 33 PA12, 34 PA13, 35 VSS hidden, 36 VDD, 37 PA14, 38 PA15, 39 PB3, 40 PB4, 41 PB5, 42 PB6, 43 PB7, 44 BOOT0, 45 PB8, 46 PB9, 47 VSS hidden, 48 VDD, 49 VSS hidden

## STM32L031C6Tx
designator *  value STM32L031C6Tx  Reference: U
ki_keywords: Arm Cortex-M0+ STM32L0 STM32L0x1; ki_description: STMicroelectronics Arm Cortex-M0+ MCU, 32KB flash, 8KB RAM, 32 MHz, 1.65-3.6V, 38 GPIO, LQFP48; ki_fp_filters: LQFP*7x7mm*P0.5mm*; Footprint: Package_QFP:LQFP-48_7x7mm_P0.5mm; Datasheet: https://www.st.com/resource/en/datasheet/stm32l031c6.pdf
pins: 1 PC0, 2 PC13, 3 PC14, 4 PC15, 5 PH0, 6 PH1, 7 NRST, 8 VSSA, 9 VDDA, 10 PA0, 11 PA1, 12 PA2, 13 PA3, 14 PA4, 15 PA5, 16 PA6, 17 PA7, 18 PB0, 19 PB1, 20 PB2, 21 PB10, 22 PB11, 23 VSS, 24 VDD, 25 PB12, 26 PB13, 27 PB14, 28 PB15, 29 PA8, 30 PA9, 31 PA10, 32 PA11, 33 PA12, 34 PA13, 35 VSS hidden, 36 VDD, 37 PA14, 38 PA15, 39 PB3, 40 PB4, 41 PB5, 42 PB6, 43 PB7, 44 BOOT0, 45 PB8, 46 PB9, 47 VSS hidden, 48 VDD

## STM32L031C6Ux
designator *  value STM32L031C6Ux  Reference: U
ki_keywords: Arm Cortex-M0+ STM32L0 STM32L0x1; ki_description: STMicroelectronics Arm Cortex-M0+ MCU, 32KB flash, 8KB RAM, 32 MHz, 1.65-3.6V, 38 GPIO, UFQFPN48; ki_fp_filters: QFN*1EP*7x7mm*P0.5mm*; Footprint: Package_DFN_QFN:QFN-48-1EP_7x7mm_P0.5mm_EP5.6x5.6mm; Datasheet: https://www.st.com/resource/en/datasheet/stm32l031c6.pdf
pins: 1 PC0, 2 PC13, 3 PC14, 4 PC15, 5 PH0, 6 PH1, 7 NRST, 8 VSSA, 9 VDDA, 10 PA0, 11 PA1, 12 PA2, 13 PA3, 14 PA4, 15 PA5, 16 PA6, 17 PA7, 18 PB0, 19 PB1, 20 PB2, 21 PB10, 22 PB11, 23 VSS, 24 VDD, 25 PB12, 26 PB13, 27 PB14, 28 PB15, 29 PA8, 30 PA9, 31 PA10, 32 PA11, 33 PA12, 34 PA13, 35 VSS hidden, 36 VDD, 37 PA14, 38 PA15, 39 PB3, 40 PB4, 41 PB5, 42 PB6, 43 PB7, 44 BOOT0, 45 PB8, 46 PB9, 47 VSS hidden, 48 VDD, 49 VSS hidden

## STM32L031C_4-6_Tx
designator *  value STM32L031C_4-6_Tx  Reference: U
ki_keywords: Arm Cortex-M0+ STM32L0 STM32L0x1; ki_description: STMicroelectronics Arm Cortex-M0+ MCU, 16-32KB flash, 8KB RAM, 32 MHz, 1.65-3.6V, 38 GPIO, LQFP48; ki_fp_filters: LQFP*7x7mm*P0.5mm*; Footprint: Package_QFP:LQFP-48_7x7mm_P0.5mm; Datasheet: https://www.st.com/resource/en/datasheet/stm32l031c4.pdf
pins: 1 PC0, 2 PC13, 3 PC14, 4 PC15, 5 PH0, 6 PH1, 7 NRST, 8 VSSA, 9 VDDA, 10 PA0, 11 PA1, 12 PA2, 13 PA3, 14 PA4, 15 PA5, 16 PA6, 17 PA7, 18 PB0, 19 PB1, 20 PB2, 21 PB10, 22 PB11, 23 VSS, 24 VDD, 25 PB12, 26 PB13, 27 PB14, 28 PB15, 29 PA8, 30 PA9, 31 PA10, 32 PA11, 33 PA12, 34 PA13, 35 VSS hidden, 36 VDD, 37 PA14, 38 PA15, 39 PB3, 40 PB4, 41 PB5, 42 PB6, 43 PB7, 44 BOOT0, 45 PB8, 46 PB9, 47 VSS hidden, 48 VDD

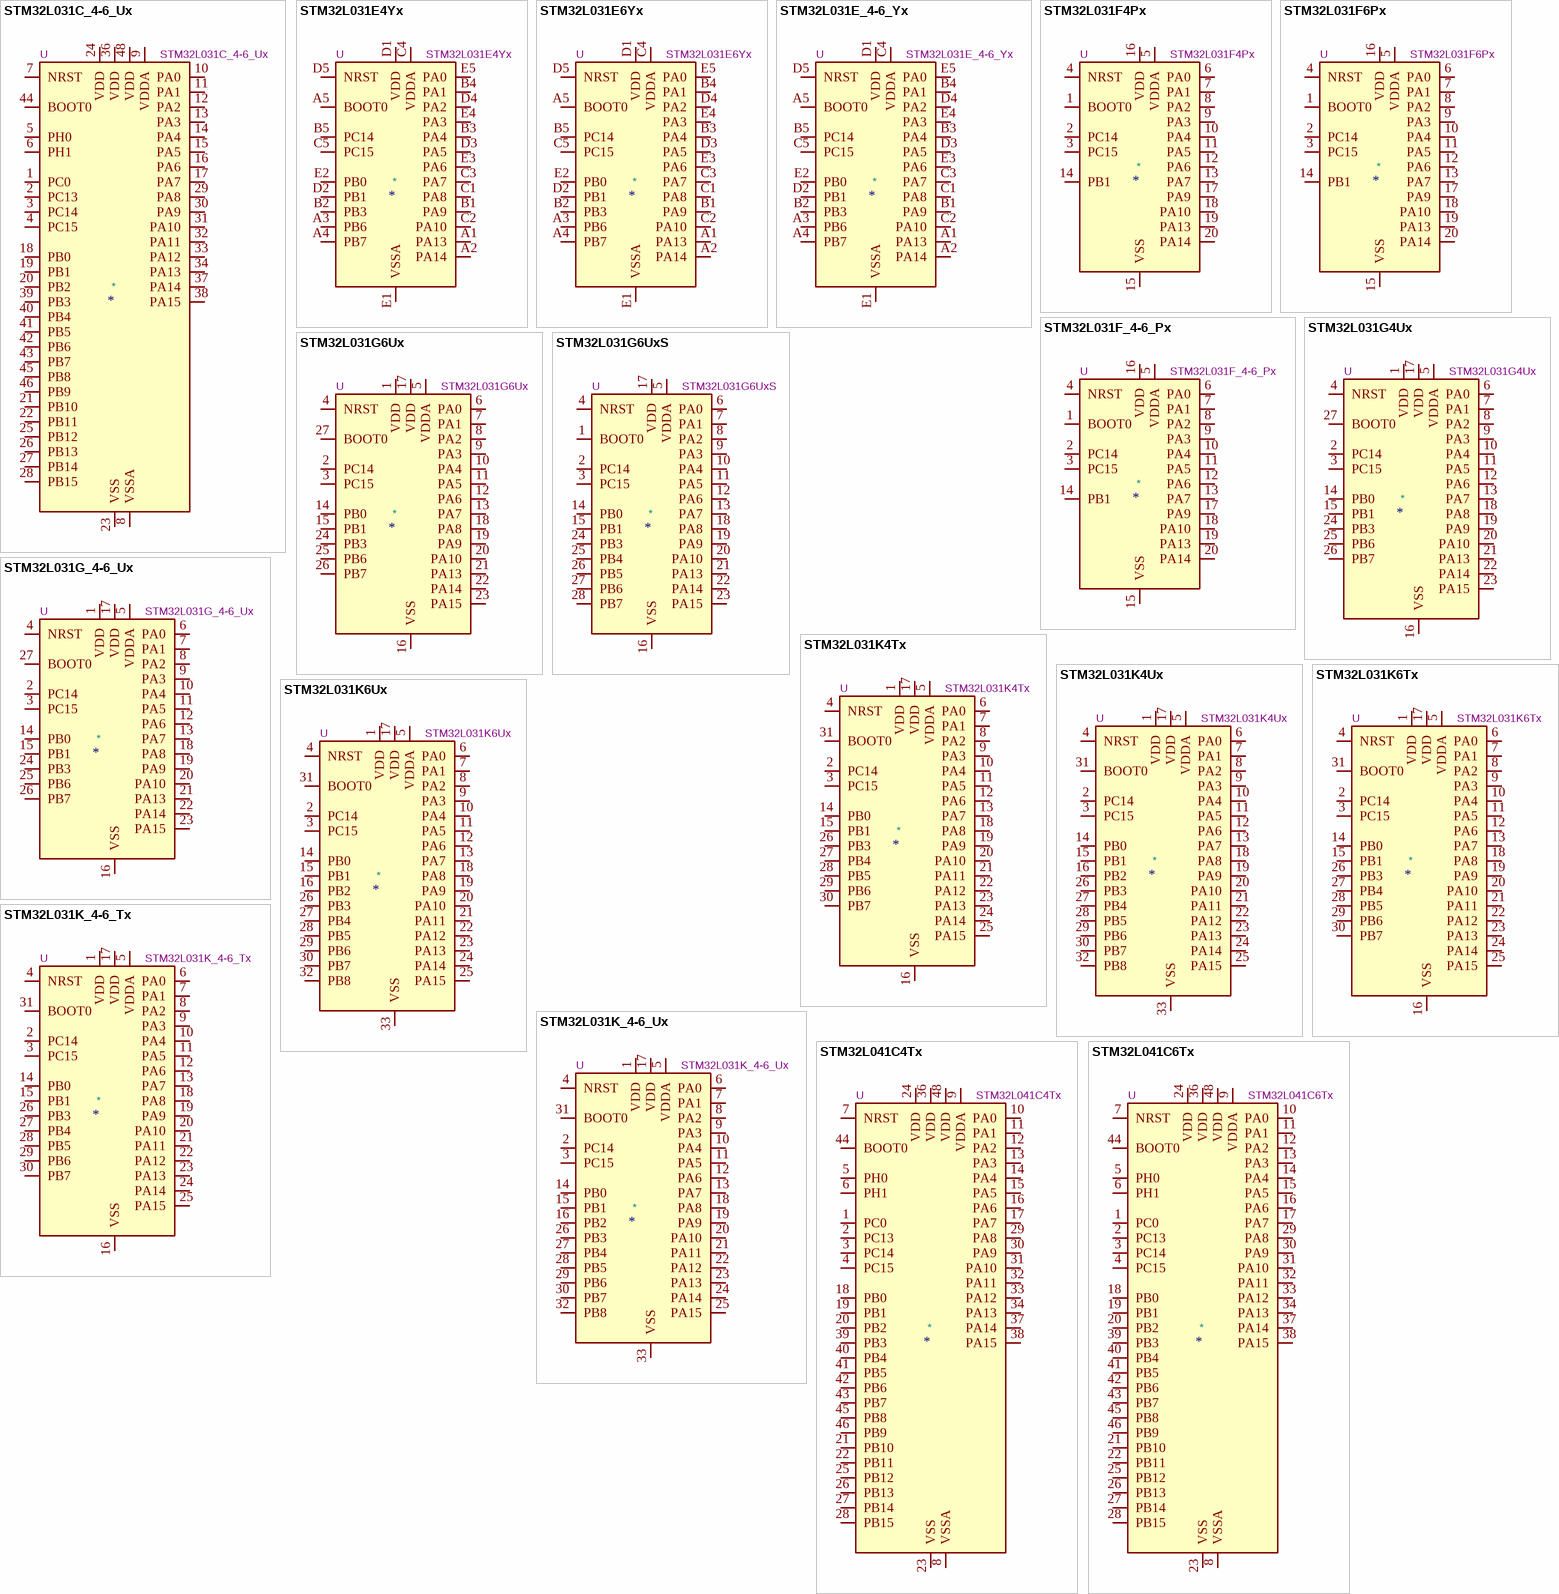
[diagram p2: symbols STM32L031C_4-6_Ux to STM32L041C6Tx]

## STM32L031C_4-6_Ux
designator *  value STM32L031C_4-6_Ux  Reference: U
ki_keywords: Arm Cortex-M0+ STM32L0 STM32L0x1; ki_description: STMicroelectronics Arm Cortex-M0+ MCU, 16-32KB flash, 8KB RAM, 32 MHz, 1.65-3.6V, 38 GPIO, UFQFPN48; ki_fp_filters: QFN*1EP*7x7mm*P0.5mm*; Footprint: Package_DFN_QFN:QFN-48-1EP_7x7mm_P0.5mm_EP5.6x5.6mm; Datasheet: https://www.st.com/resource/en/datasheet/stm32l031c4.pdf
pins: 1 PC0, 2 PC13, 3 PC14, 4 PC15, 5 PH0, 6 PH1, 7 NRST, 8 VSSA, 9 VDDA, 10 PA0, 11 PA1, 12 PA2, 13 PA3, 14 PA4, 15 PA5, 16 PA6, 17 PA7, 18 PB0, 19 PB1, 20 PB2, 21 PB10, 22 PB11, 23 VSS, 24 VDD, 25 PB12, 26 PB13, 27 PB14, 28 PB15, 29 PA8, 30 PA9, 31 PA10, 32 PA11, 33 PA12, 34 PA13, 35 VSS hidden, 36 VDD, 37 PA14, 38 PA15, 39 PB3, 40 PB4, 41 PB5, 42 PB6, 43 PB7, 44 BOOT0, 45 PB8, 46 PB9, 47 VSS hidden, 48 VDD, 49 VSS hidden

## STM32L031E4Yx
designator *  value STM32L031E4Yx  Reference: U
ki_keywords: Arm Cortex-M0+ STM32L0 STM32L0x1; ki_description: STMicroelectronics Arm Cortex-M0+ MCU, 16KB flash, 8KB RAM, 32 MHz, 1.65-3.6V, 20 GPIO, WLCSP25; ki_fp_filters: ST*WLCSP*Die425*; Footprint: Package_CSP:ST_WLCSP-25_Die425; Datasheet: https://www.st.com/resource/en/datasheet/stm32l031e4.pdf
pins: A1 PA13, A2 PA14, A3 PB6, A4 PB7, A5 BOOT0, B1 PA9, B2 PB3, B3 PA4, B4 PA1, B5 PC14, C1 PA8, C2 PA10, C3 PA7, C4 VDDA, C5 PC15, D1 VDD, D2 PB1, D3 PA5, D4 PA2, D5 NRST, E1 VSSA, E2 PB0, E3 PA6, E4 PA3, E5 PA0

## STM32L031E6Yx
designator *  value STM32L031E6Yx  Reference: U
ki_keywords: Arm Cortex-M0+ STM32L0 STM32L0x1; ki_description: STMicroelectronics Arm Cortex-M0+ MCU, 32KB flash, 8KB RAM, 32 MHz, 1.65-3.6V, 20 GPIO, WLCSP25; ki_fp_filters: ST*WLCSP*Die425*; Footprint: Package_CSP:ST_WLCSP-25_Die425; Datasheet: https://www.st.com/resource/en/datasheet/stm32l031e6.pdf
pins: A1 PA13, A2 PA14, A3 PB6, A4 PB7, A5 BOOT0, B1 PA9, B2 PB3, B3 PA4, B4 PA1, B5 PC14, C1 PA8, C2 PA10, C3 PA7, C4 VDDA, C5 PC15, D1 VDD, D2 PB1, D3 PA5, D4 PA2, D5 NRST, E1 VSSA, E2 PB0, E3 PA6, E4 PA3, E5 PA0

## STM32L031E_4-6_Yx
designator *  value STM32L031E_4-6_Yx  Reference: U
ki_keywords: Arm Cortex-M0+ STM32L0 STM32L0x1; ki_description: STMicroelectronics Arm Cortex-M0+ MCU, 16-32KB flash, 8KB RAM, 32 MHz, 1.65-3.6V, 20 GPIO, WLCSP25; ki_fp_filters: ST*WLCSP*Die425*; Footprint: Package_CSP:ST_WLCSP-25_Die425; Datasheet: https://www.st.com/resource/en/datasheet/stm32l031e4.pdf
pins: A1 PA13, A2 PA14, A3 PB6, A4 PB7, A5 BOOT0, B1 PA9, B2 PB3, B3 PA4, B4 PA1, B5 PC14, C1 PA8, C2 PA10, C3 PA7, C4 VDDA, C5 PC15, D1 VDD, D2 PB1, D3 PA5, D4 PA2, D5 NRST, E1 VSSA, E2 PB0, E3 PA6, E4 PA3, E5 PA0

## STM32L031F4Px
designator *  value STM32L031F4Px  Reference: U
ki_keywords: Arm Cortex-M0+ STM32L0 STM32L0x1; ki_description: STMicroelectronics Arm Cortex-M0+ MCU, 16KB flash, 8KB RAM, 32 MHz, 1.65-3.6V, 15 GPIO, TSSOP20; ki_fp_filters: TSSOP*4.4x6.5mm*P0.65mm*; Footprint: Package_SO:TSSOP-20_4.4x6.5mm_P0.65mm; Datasheet: https://www.st.com/resource/en/datasheet/stm32l031f4.pdf
pins: 1 BOOT0, 2 PC14, 3 PC15, 4 NRST, 5 VDDA, 6 PA0, 7 PA1, 8 PA2, 9 PA3, 10 PA4, 11 PA5, 12 PA6, 13 PA7, 14 PB1, 15 VSS, 16 VDD, 17 PA9, 18 PA10, 19 PA13, 20 PA14

## STM32L031F6Px
designator *  value STM32L031F6Px  Reference: U
ki_keywords: Arm Cortex-M0+ STM32L0 STM32L0x1; ki_description: STMicroelectronics Arm Cortex-M0+ MCU, 32KB flash, 8KB RAM, 32 MHz, 1.65-3.6V, 15 GPIO, TSSOP20; ki_fp_filters: TSSOP*4.4x6.5mm*P0.65mm*; Footprint: Package_SO:TSSOP-20_4.4x6.5mm_P0.65mm; Datasheet: https://www.st.com/resource/en/datasheet/stm32l031f6.pdf
pins: 1 BOOT0, 2 PC14, 3 PC15, 4 NRST, 5 VDDA, 6 PA0, 7 PA1, 8 PA2, 9 PA3, 10 PA4, 11 PA5, 12 PA6, 13 PA7, 14 PB1, 15 VSS, 16 VDD, 17 PA9, 18 PA10, 19 PA13, 20 PA14

## STM32L031F_4-6_Px
designator *  value STM32L031F_4-6_Px  Reference: U
ki_keywords: Arm Cortex-M0+ STM32L0 STM32L0x1; ki_description: STMicroelectronics Arm Cortex-M0+ MCU, 16-32KB flash, 8KB RAM, 32 MHz, 1.65-3.6V, 15 GPIO, TSSOP20; ki_fp_filters: TSSOP*4.4x6.5mm*P0.65mm*; Footprint: Package_SO:TSSOP-20_4.4x6.5mm_P0.65mm; Datasheet: https://www.st.com/resource/en/datasheet/stm32l031f4.pdf
pins: 1 BOOT0, 2 PC14, 3 PC15, 4 NRST, 5 VDDA, 6 PA0, 7 PA1, 8 PA2, 9 PA3, 10 PA4, 11 PA5, 12 PA6, 13 PA7, 14 PB1, 15 VSS, 16 VDD, 17 PA9, 18 PA10, 19 PA13, 20 PA14

## STM32L031G4Ux
designator *  value STM32L031G4Ux  Reference: U
ki_keywords: Arm Cortex-M0+ STM32L0 STM32L0x1; ki_description: STMicroelectronics Arm Cortex-M0+ MCU, 16KB flash, 8KB RAM, 32 MHz, 1.65-3.6V, 21 GPIO, UFQFPN28; ki_fp_filters: QFN*4x4mm*P0.5mm*; Footprint: Package_DFN_QFN:QFN-28_4x4mm_P0.5mm; Datasheet: https://www.st.com/resource/en/datasheet/stm32l031g4.pdf
pins: 1 VDD, 2 PC14, 3 PC15, 4 NRST, 5 VDDA, 6 PA0, 7 PA1, 8 PA2, 9 PA3, 10 PA4, 11 PA5, 12 PA6, 13 PA7, 14 PB0, 15 PB1, 16 VSS, 17 VDD, 18 PA8, 19 PA9, 20 PA10, 21 PA13, 22 PA14, 23 PA15, 24 PB3, 25 PB6, 26 PB7, 27 BOOT0, 28 VSS hidden

## STM32L031G6Ux
designator *  value STM32L031G6Ux  Reference: U
ki_keywords: Arm Cortex-M0+ STM32L0 STM32L0x1; ki_description: STMicroelectronics Arm Cortex-M0+ MCU, 32KB flash, 8KB RAM, 32 MHz, 1.65-3.6V, 21 GPIO, UFQFPN28; ki_fp_filters: QFN*4x4mm*P0.5mm*; Footprint: Package_DFN_QFN:QFN-28_4x4mm_P0.5mm; Datasheet: https://www.st.com/resource/en/datasheet/stm32l031g6.pdf
pins: 1 VDD, 2 PC14, 3 PC15, 4 NRST, 5 VDDA, 6 PA0, 7 PA1, 8 PA2, 9 PA3, 10 PA4, 11 PA5, 12 PA6, 13 PA7, 14 PB0, 15 PB1, 16 VSS, 17 VDD, 18 PA8, 19 PA9, 20 PA10, 21 PA13, 22 PA14, 23 PA15, 24 PB3, 25 PB6, 26 PB7, 27 BOOT0, 28 VSS hidden

## STM32L031G6UxS
designator *  value STM32L031G6UxS  Reference: U
ki_keywords: Arm Cortex-M0+ STM32L0 STM32L0x1; ki_description: STMicroelectronics Arm Cortex-M0+ MCU, 32KB flash, 8KB RAM, 32 MHz, 1.65-3.6V, 23 GPIO, UFQFPN28; ki_fp_filters: QFN*4x4mm*P0.5mm*; Footprint: Package_DFN_QFN:QFN-28_4x4mm_P0.5mm; Datasheet: https://www.st.com/resource/en/datasheet/stm32l031g6.pdf
pins: 1 BOOT0, 2 PC14, 3 PC15, 4 NRST, 5 VDDA, 6 PA0, 7 PA1, 8 PA2, 9 PA3, 10 PA4, 11 PA5, 12 PA6, 13 PA7, 14 PB0, 15 PB1, 16 VSS, 17 VDD, 18 PA8, 19 PA9, 20 PA10, 21 PA13, 22 PA14, 23 PA15, 24 PB3, 25 PB4, 26 PB5, 27 PB6, 28 PB7

## STM32L031G_4-6_Ux
designator *  value STM32L031G_4-6_Ux  Reference: U
ki_keywords: Arm Cortex-M0+ STM32L0 STM32L0x1; ki_description: STMicroelectronics Arm Cortex-M0+ MCU, 16-32KB flash, 8KB RAM, 32 MHz, 1.65-3.6V, 21 GPIO, UFQFPN28; ki_fp_filters: QFN*4x4mm*P0.5mm*; Footprint: Package_DFN_QFN:QFN-28_4x4mm_P0.5mm; Datasheet: https://www.st.com/resource/en/datasheet/stm32l031g4.pdf
pins: 1 VDD, 2 PC14, 3 PC15, 4 NRST, 5 VDDA, 6 PA0, 7 PA1, 8 PA2, 9 PA3, 10 PA4, 11 PA5, 12 PA6, 13 PA7, 14 PB0, 15 PB1, 16 VSS, 17 VDD, 18 PA8, 19 PA9, 20 PA10, 21 PA13, 22 PA14, 23 PA15, 24 PB3, 25 PB6, 26 PB7, 27 BOOT0, 28 VSS hidden

## STM32L031K4Tx
designator *  value STM32L031K4Tx  Reference: U
ki_keywords: Arm Cortex-M0+ STM32L0 STM32L0x1; ki_description: STMicroelectronics Arm Cortex-M0+ MCU, 16KB flash, 8KB RAM, 32 MHz, 1.65-3.6V, 25 GPIO, LQFP32; ki_fp_filters: LQFP*7x7mm*P0.8mm*; Footprint: Package_QFP:LQFP-32_7x7mm_P0.8mm; Datasheet: https://www.st.com/resource/en/datasheet/stm32l031k4.pdf
pins: 1 VDD, 2 PC14, 3 PC15, 4 NRST, 5 VDDA, 6 PA0, 7 PA1, 8 PA2, 9 PA3, 10 PA4, 11 PA5, 12 PA6, 13 PA7, 14 PB0, 15 PB1, 16 VSS, 17 VDD, 18 PA8, 19 PA9, 20 PA10, 21 PA11, 22 PA12, 23 PA13, 24 PA14, 25 PA15, 26 PB3, 27 PB4, 28 PB5, 29 PB6, 30 PB7, 31 BOOT0, 32 VSS hidden

## STM32L031K4Ux
designator *  value STM32L031K4Ux  Reference: U
ki_keywords: Arm Cortex-M0+ STM32L0 STM32L0x1; ki_description: STMicroelectronics Arm Cortex-M0+ MCU, 16KB flash, 8KB RAM, 32 MHz, 1.65-3.6V, 27 GPIO, UFQFPN32; ki_fp_filters: QFN*1EP*5x5mm*P0.5mm*; Footprint: Package_DFN_QFN:QFN-32-1EP_5x5mm_P0.5mm_EP3.45x3.45mm; Datasheet: https://www.st.com/resource/en/datasheet/stm32l031k4.pdf
pins: 1 VDD, 2 PC14, 3 PC15, 4 NRST, 5 VDDA, 6 PA0, 7 PA1, 8 PA2, 9 PA3, 10 PA4, 11 PA5, 12 PA6, 13 PA7, 14 PB0, 15 PB1, 16 PB2, 17 VDD, 18 PA8, 19 PA9, 20 PA10, 21 PA11, 22 PA12, 23 PA13, 24 PA14, 25 PA15, 26 PB3, 27 PB4, 28 PB5, 29 PB6, 30 PB7, 31 BOOT0, 32 PB8, 33 VSS

## STM32L031K6Tx
designator *  value STM32L031K6Tx  Reference: U
ki_keywords: Arm Cortex-M0+ STM32L0 STM32L0x1; ki_description: STMicroelectronics Arm Cortex-M0+ MCU, 32KB flash, 8KB RAM, 32 MHz, 1.65-3.6V, 25 GPIO, LQFP32; ki_fp_filters: LQFP*7x7mm*P0.8mm*; Footprint: Package_QFP:LQFP-32_7x7mm_P0.8mm; Datasheet: https://www.st.com/resource/en/datasheet/stm32l031k6.pdf
pins: 1 VDD, 2 PC14, 3 PC15, 4 NRST, 5 VDDA, 6 PA0, 7 PA1, 8 PA2, 9 PA3, 10 PA4, 11 PA5, 12 PA6, 13 PA7, 14 PB0, 15 PB1, 16 VSS, 17 VDD, 18 PA8, 19 PA9, 20 PA10, 21 PA11, 22 PA12, 23 PA13, 24 PA14, 25 PA15, 26 PB3, 27 PB4, 28 PB5, 29 PB6, 30 PB7, 31 BOOT0, 32 VSS hidden

## STM32L031K6Ux
designator *  value STM32L031K6Ux  Reference: U
ki_keywords: Arm Cortex-M0+ STM32L0 STM32L0x1; ki_description: STMicroelectronics Arm Cortex-M0+ MCU, 32KB flash, 8KB RAM, 32 MHz, 1.65-3.6V, 27 GPIO, UFQFPN32; ki_fp_filters: QFN*1EP*5x5mm*P0.5mm*; Footprint: Package_DFN_QFN:QFN-32-1EP_5x5mm_P0.5mm_EP3.45x3.45mm; Datasheet: https://www.st.com/resource/en/datasheet/stm32l031k6.pdf
pins: 1 VDD, 2 PC14, 3 PC15, 4 NRST, 5 VDDA, 6 PA0, 7 PA1, 8 PA2, 9 PA3, 10 PA4, 11 PA5, 12 PA6, 13 PA7, 14 PB0, 15 PB1, 16 PB2, 17 VDD, 18 PA8, 19 PA9, 20 PA10, 21 PA11, 22 PA12, 23 PA13, 24 PA14, 25 PA15, 26 PB3, 27 PB4, 28 PB5, 29 PB6, 30 PB7, 31 BOOT0, 32 PB8, 33 VSS

## STM32L031K_4-6_Tx
designator *  value STM32L031K_4-6_Tx  Reference: U
ki_keywords: Arm Cortex-M0+ STM32L0 STM32L0x1; ki_description: STMicroelectronics Arm Cortex-M0+ MCU, 16-32KB flash, 8KB RAM, 32 MHz, 1.65-3.6V, 25 GPIO, LQFP32; ki_fp_filters: LQFP*7x7mm*P0.8mm*; Footprint: Package_QFP:LQFP-32_7x7mm_P0.8mm; Datasheet: https://www.st.com/resource/en/datasheet/stm32l031k4.pdf
pins: 1 VDD, 2 PC14, 3 PC15, 4 NRST, 5 VDDA, 6 PA0, 7 PA1, 8 PA2, 9 PA3, 10 PA4, 11 PA5, 12 PA6, 13 PA7, 14 PB0, 15 PB1, 16 VSS, 17 VDD, 18 PA8, 19 PA9, 20 PA10, 21 PA11, 22 PA12, 23 PA13, 24 PA14, 25 PA15, 26 PB3, 27 PB4, 28 PB5, 29 PB6, 30 PB7, 31 BOOT0, 32 VSS hidden

## STM32L031K_4-6_Ux
designator *  value STM32L031K_4-6_Ux  Reference: U
ki_keywords: Arm Cortex-M0+ STM32L0 STM32L0x1; ki_description: STMicroelectronics Arm Cortex-M0+ MCU, 16-32KB flash, 8KB RAM, 32 MHz, 1.65-3.6V, 27 GPIO, UFQFPN32; ki_fp_filters: QFN*1EP*5x5mm*P0.5mm*; Footprint: Package_DFN_QFN:QFN-32-1EP_5x5mm_P0.5mm_EP3.45x3.45mm; Datasheet: https://www.st.com/resource/en/datasheet/stm32l031k4.pdf
pins: 1 VDD, 2 PC14, 3 PC15, 4 NRST, 5 VDDA, 6 PA0, 7 PA1, 8 PA2, 9 PA3, 10 PA4, 11 PA5, 12 PA6, 13 PA7, 14 PB0, 15 PB1, 16 PB2, 17 VDD, 18 PA8, 19 PA9, 20 PA10, 21 PA11, 22 PA12, 23 PA13, 24 PA14, 25 PA15, 26 PB3, 27 PB4, 28 PB5, 29 PB6, 30 PB7, 31 BOOT0, 32 PB8, 33 VSS

## STM32L041C4Tx
designator *  value STM32L041C4Tx  Reference: U
ki_keywords: Arm Cortex-M0+ STM32L0 STM32L0x1; ki_description: STMicroelectronics Arm Cortex-M0+ MCU, 16KB flash, 8KB RAM, 32 MHz, 1.65-3.6V, 38 GPIO, LQFP48; ki_fp_filters: LQFP*7x7mm*P0.5mm*; Footprint: Package_QFP:LQFP-48_7x7mm_P0.5mm; Datasheet: https://www.st.com/resource/en/datasheet/stm32l041c4.pdf
pins: 1 PC0, 2 PC13, 3 PC14, 4 PC15, 5 PH0, 6 PH1, 7 NRST, 8 VSSA, 9 VDDA, 10 PA0, 11 PA1, 12 PA2, 13 PA3, 14 PA4, 15 PA5, 16 PA6, 17 PA7, 18 PB0, 19 PB1, 20 PB2, 21 PB10, 22 PB11, 23 VSS, 24 VDD, 25 PB12, 26 PB13, 27 PB14, 28 PB15, 29 PA8, 30 PA9, 31 PA10, 32 PA11, 33 PA12, 34 PA13, 35 VSS hidden, 36 VDD, 37 PA14, 38 PA15, 39 PB3, 40 PB4, 41 PB5, 42 PB6, 43 PB7, 44 BOOT0, 45 PB8, 46 PB9, 47 VSS hidden, 48 VDD

## STM32L041C6Tx
designator *  value STM32L041C6Tx  Reference: U
ki_keywords: Arm Cortex-M0+ STM32L0 STM32L0x1; ki_description: STMicroelectronics Arm Cortex-M0+ MCU, 32KB flash, 8KB RAM, 32 MHz, 1.65-3.6V, 38 GPIO, LQFP48; ki_fp_filters: LQFP*7x7mm*P0.5mm*; Footprint: Package_QFP:LQFP-48_7x7mm_P0.5mm; Datasheet: https://www.st.com/resource/en/datasheet/stm32l041c6.pdf
pins: 1 PC0, 2 PC13, 3 PC14, 4 PC15, 5 PH0, 6 PH1, 7 NRST, 8 VSSA, 9 VDDA, 10 PA0, 11 PA1, 12 PA2, 13 PA3, 14 PA4, 15 PA5, 16 PA6, 17 PA7, 18 PB0, 19 PB1, 20 PB2, 21 PB10, 22 PB11, 23 VSS, 24 VDD, 25 PB12, 26 PB13, 27 PB14, 28 PB15, 29 PA8, 30 PA9, 31 PA10, 32 PA11, 33 PA12, 34 PA13, 35 VSS hidden, 36 VDD, 37 PA14, 38 PA15, 39 PB3, 40 PB4, 41 PB5, 42 PB6, 43 PB7, 44 BOOT0, 45 PB8, 46 PB9, 47 VSS hidden, 48 VDD

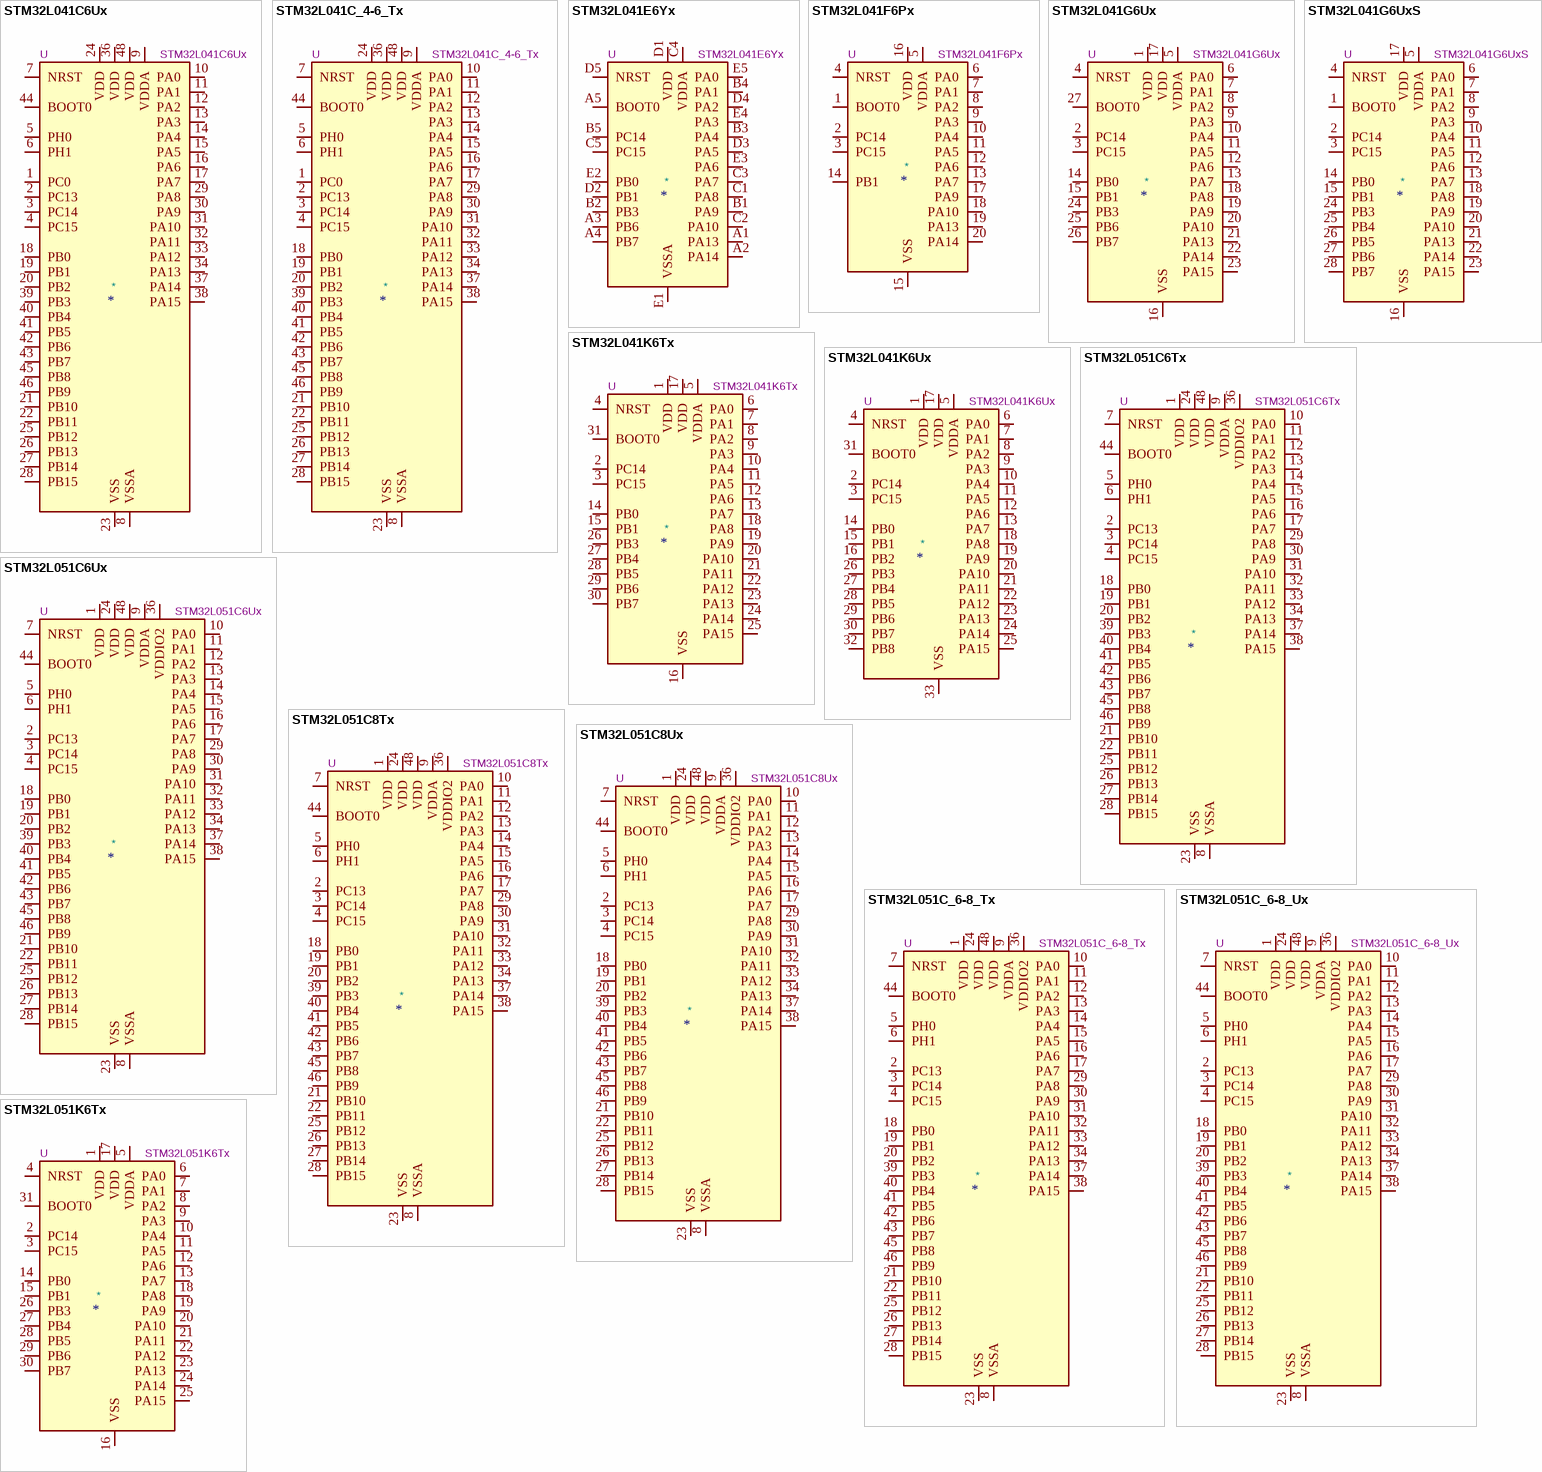
[diagram p3: symbols STM32L041C6Ux to STM32L051K6Tx]

## STM32L041C6Ux
designator *  value STM32L041C6Ux  Reference: U
ki_keywords: Arm Cortex-M0+ STM32L0 STM32L0x1; ki_description: STMicroelectronics Arm Cortex-M0+ MCU, 32KB flash, 8KB RAM, 32 MHz, 1.65-3.6V, 38 GPIO, UFQFPN48; ki_fp_filters: QFN*1EP*7x7mm*P0.5mm*; Footprint: Package_DFN_QFN:QFN-48-1EP_7x7mm_P0.5mm_EP5.6x5.6mm; Datasheet: https://www.st.com/resource/en/datasheet/stm32l041c6.pdf
pins: 1 PC0, 2 PC13, 3 PC14, 4 PC15, 5 PH0, 6 PH1, 7 NRST, 8 VSSA, 9 VDDA, 10 PA0, 11 PA1, 12 PA2, 13 PA3, 14 PA4, 15 PA5, 16 PA6, 17 PA7, 18 PB0, 19 PB1, 20 PB2, 21 PB10, 22 PB11, 23 VSS, 24 VDD, 25 PB12, 26 PB13, 27 PB14, 28 PB15, 29 PA8, 30 PA9, 31 PA10, 32 PA11, 33 PA12, 34 PA13, 35 VSS hidden, 36 VDD, 37 PA14, 38 PA15, 39 PB3, 40 PB4, 41 PB5, 42 PB6, 43 PB7, 44 BOOT0, 45 PB8, 46 PB9, 47 VSS hidden, 48 VDD, 49 VSS hidden

## STM32L041C_4-6_Tx
designator *  value STM32L041C_4-6_Tx  Reference: U
ki_keywords: Arm Cortex-M0+ STM32L0 STM32L0x1; ki_description: STMicroelectronics Arm Cortex-M0+ MCU, 16-32KB flash, 8KB RAM, 32 MHz, 1.65-3.6V, 38 GPIO, LQFP48; ki_fp_filters: LQFP*7x7mm*P0.5mm*; Footprint: Package_QFP:LQFP-48_7x7mm_P0.5mm; Datasheet: https://www.st.com/resource/en/datasheet/stm32l041c.pdf
pins: 1 PC0, 2 PC13, 3 PC14, 4 PC15, 5 PH0, 6 PH1, 7 NRST, 8 VSSA, 9 VDDA, 10 PA0, 11 PA1, 12 PA2, 13 PA3, 14 PA4, 15 PA5, 16 PA6, 17 PA7, 18 PB0, 19 PB1, 20 PB2, 21 PB10, 22 PB11, 23 VSS, 24 VDD, 25 PB12, 26 PB13, 27 PB14, 28 PB15, 29 PA8, 30 PA9, 31 PA10, 32 PA11, 33 PA12, 34 PA13, 35 VSS hidden, 36 VDD, 37 PA14, 38 PA15, 39 PB3, 40 PB4, 41 PB5, 42 PB6, 43 PB7, 44 BOOT0, 45 PB8, 46 PB9, 47 VSS hidden, 48 VDD

## STM32L041E6Yx
designator *  value STM32L041E6Yx  Reference: U
ki_keywords: Arm Cortex-M0+ STM32L0 STM32L0x1; ki_description: STMicroelectronics Arm Cortex-M0+ MCU, 32KB flash, 8KB RAM, 32 MHz, 1.65-3.6V, 20 GPIO, WLCSP25; ki_fp_filters: ST*WLCSP*Die425*; Footprint: Package_CSP:ST_WLCSP-25_Die425; Datasheet: https://www.st.com/resource/en/datasheet/stm32l041e6.pdf
pins: A1 PA13, A2 PA14, A3 PB6, A4 PB7, A5 BOOT0, B1 PA9, B2 PB3, B3 PA4, B4 PA1, B5 PC14, C1 PA8, C2 PA10, C3 PA7, C4 VDDA, C5 PC15, D1 VDD, D2 PB1, D3 PA5, D4 PA2, D5 NRST, E1 VSSA, E2 PB0, E3 PA6, E4 PA3, E5 PA0

## STM32L041F6Px
designator *  value STM32L041F6Px  Reference: U
ki_keywords: Arm Cortex-M0+ STM32L0 STM32L0x1; ki_description: STMicroelectronics Arm Cortex-M0+ MCU, 32KB flash, 8KB RAM, 32 MHz, 1.65-3.6V, 15 GPIO, TSSOP20; ki_fp_filters: TSSOP*4.4x6.5mm*P0.65mm*; Footprint: Package_SO:TSSOP-20_4.4x6.5mm_P0.65mm; Datasheet: https://www.st.com/resource/en/datasheet/stm32l041f6.pdf
pins: 1 BOOT0, 2 PC14, 3 PC15, 4 NRST, 5 VDDA, 6 PA0, 7 PA1, 8 PA2, 9 PA3, 10 PA4, 11 PA5, 12 PA6, 13 PA7, 14 PB1, 15 VSS, 16 VDD, 17 PA9, 18 PA10, 19 PA13, 20 PA14

## STM32L041G6Ux
designator *  value STM32L041G6Ux  Reference: U
ki_keywords: Arm Cortex-M0+ STM32L0 STM32L0x1; ki_description: STMicroelectronics Arm Cortex-M0+ MCU, 32KB flash, 8KB RAM, 32 MHz, 1.65-3.6V, 21 GPIO, UFQFPN28; ki_fp_filters: QFN*4x4mm*P0.5mm*; Footprint: Package_DFN_QFN:QFN-28_4x4mm_P0.5mm; Datasheet: https://www.st.com/resource/en/datasheet/stm32l041g6.pdf
pins: 1 VDD, 2 PC14, 3 PC15, 4 NRST, 5 VDDA, 6 PA0, 7 PA1, 8 PA2, 9 PA3, 10 PA4, 11 PA5, 12 PA6, 13 PA7, 14 PB0, 15 PB1, 16 VSS, 17 VDD, 18 PA8, 19 PA9, 20 PA10, 21 PA13, 22 PA14, 23 PA15, 24 PB3, 25 PB6, 26 PB7, 27 BOOT0, 28 VSS hidden

## STM32L041G6UxS
designator *  value STM32L041G6UxS  Reference: U
ki_keywords: Arm Cortex-M0+ STM32L0 STM32L0x1; ki_description: STMicroelectronics Arm Cortex-M0+ MCU, 32KB flash, 8KB RAM, 32 MHz, 1.65-3.6V, 23 GPIO, UFQFPN28; ki_fp_filters: QFN*4x4mm*P0.5mm*; Footprint: Package_DFN_QFN:QFN-28_4x4mm_P0.5mm; Datasheet: https://www.st.com/resource/en/datasheet/stm32l041g6.pdf
pins: 1 BOOT0, 2 PC14, 3 PC15, 4 NRST, 5 VDDA, 6 PA0, 7 PA1, 8 PA2, 9 PA3, 10 PA4, 11 PA5, 12 PA6, 13 PA7, 14 PB0, 15 PB1, 16 VSS, 17 VDD, 18 PA8, 19 PA9, 20 PA10, 21 PA13, 22 PA14, 23 PA15, 24 PB3, 25 PB4, 26 PB5, 27 PB6, 28 PB7

## STM32L041K6Tx
designator *  value STM32L041K6Tx  Reference: U
ki_keywords: Arm Cortex-M0+ STM32L0 STM32L0x1; ki_description: STMicroelectronics Arm Cortex-M0+ MCU, 32KB flash, 8KB RAM, 32 MHz, 1.65-3.6V, 25 GPIO, LQFP32; ki_fp_filters: LQFP*7x7mm*P0.8mm*; Footprint: Package_QFP:LQFP-32_7x7mm_P0.8mm; Datasheet: https://www.st.com/resource/en/datasheet/stm32l041k6.pdf
pins: 1 VDD, 2 PC14, 3 PC15, 4 NRST, 5 VDDA, 6 PA0, 7 PA1, 8 PA2, 9 PA3, 10 PA4, 11 PA5, 12 PA6, 13 PA7, 14 PB0, 15 PB1, 16 VSS, 17 VDD, 18 PA8, 19 PA9, 20 PA10, 21 PA11, 22 PA12, 23 PA13, 24 PA14, 25 PA15, 26 PB3, 27 PB4, 28 PB5, 29 PB6, 30 PB7, 31 BOOT0, 32 VSS hidden

## STM32L041K6Ux
designator *  value STM32L041K6Ux  Reference: U
ki_keywords: Arm Cortex-M0+ STM32L0 STM32L0x1; ki_description: STMicroelectronics Arm Cortex-M0+ MCU, 32KB flash, 8KB RAM, 32 MHz, 1.65-3.6V, 27 GPIO, UFQFPN32; ki_fp_filters: QFN*1EP*5x5mm*P0.5mm*; Footprint: Package_DFN_QFN:QFN-32-1EP_5x5mm_P0.5mm_EP3.45x3.45mm; Datasheet: https://www.st.com/resource/en/datasheet/stm32l041k6.pdf
pins: 1 VDD, 2 PC14, 3 PC15, 4 NRST, 5 VDDA, 6 PA0, 7 PA1, 8 PA2, 9 PA3, 10 PA4, 11 PA5, 12 PA6, 13 PA7, 14 PB0, 15 PB1, 16 PB2, 17 VDD, 18 PA8, 19 PA9, 20 PA10, 21 PA11, 22 PA12, 23 PA13, 24 PA14, 25 PA15, 26 PB3, 27 PB4, 28 PB5, 29 PB6, 30 PB7, 31 BOOT0, 32 PB8, 33 VSS

## STM32L051C6Tx
designator *  value STM32L051C6Tx  Reference: U
ki_keywords: Arm Cortex-M0+ STM32L0 STM32L0x1; ki_description: STMicroelectronics Arm Cortex-M0+ MCU, 32KB flash, 8KB RAM, 32 MHz, 1.65-3.6V, 37 GPIO, LQFP48; ki_fp_filters: LQFP*7x7mm*P0.5mm*; Footprint: Package_QFP:LQFP-48_7x7mm_P0.5mm; Datasheet: https://www.st.com/resource/en/datasheet/stm32l051c6.pdf
pins: 1 VDD, 2 PC13, 3 PC14, 4 PC15, 5 PH0, 6 PH1, 7 NRST, 8 VSSA, 9 VDDA, 10 PA0, 11 PA1, 12 PA2, 13 PA3, 14 PA4, 15 PA5, 16 PA6, 17 PA7, 18 PB0, 19 PB1, 20 PB2, 21 PB10, 22 PB11, 23 VSS, 24 VDD, 25 PB12, 26 PB13, 27 PB14, 28 PB15, 29 PA8, 30 PA9, 31 PA10, 32 PA11, 33 PA12, 34 PA13, 35 VSS hidden, 36 VDDIO2, 37 PA14, 38 PA15, 39 PB3, 40 PB4, 41 PB5, 42 PB6, 43 PB7, 44 BOOT0, 45 PB8, 46 PB9, 47 VSS hidden, 48 VDD

## STM32L051C6Ux
designator *  value STM32L051C6Ux  Reference: U
ki_keywords: Arm Cortex-M0+ STM32L0 STM32L0x1; ki_description: STMicroelectronics Arm Cortex-M0+ MCU, 32KB flash, 8KB RAM, 32 MHz, 1.65-3.6V, 37 GPIO, UFQFPN48; ki_fp_filters: QFN*1EP*7x7mm*P0.5mm*; Footprint: Package_DFN_QFN:QFN-48-1EP_7x7mm_P0.5mm_EP5.6x5.6mm; Datasheet: https://www.st.com/resource/en/datasheet/stm32l051c6.pdf
pins: 1 VDD, 2 PC13, 3 PC14, 4 PC15, 5 PH0, 6 PH1, 7 NRST, 8 VSSA, 9 VDDA, 10 PA0, 11 PA1, 12 PA2, 13 PA3, 14 PA4, 15 PA5, 16 PA6, 17 PA7, 18 PB0, 19 PB1, 20 PB2, 21 PB10, 22 PB11, 23 VSS, 24 VDD, 25 PB12, 26 PB13, 27 PB14, 28 PB15, 29 PA8, 30 PA9, 31 PA10, 32 PA11, 33 PA12, 34 PA13, 35 VSS hidden, 36 VDDIO2, 37 PA14, 38 PA15, 39 PB3, 40 PB4, 41 PB5, 42 PB6, 43 PB7, 44 BOOT0, 45 PB8, 46 PB9, 47 VSS hidden, 48 VDD, 49 VSS hidden

## STM32L051C8Tx
designator *  value STM32L051C8Tx  Reference: U
ki_keywords: Arm Cortex-M0+ STM32L0 STM32L0x1; ki_description: STMicroelectronics Arm Cortex-M0+ MCU, 64KB flash, 8KB RAM, 32 MHz, 1.65-3.6V, 37 GPIO, LQFP48; ki_fp_filters: LQFP*7x7mm*P0.5mm*; Footprint: Package_QFP:LQFP-48_7x7mm_P0.5mm; Datasheet: https://www.st.com/resource/en/datasheet/stm32l051c8.pdf
pins: 1 VDD, 2 PC13, 3 PC14, 4 PC15, 5 PH0, 6 PH1, 7 NRST, 8 VSSA, 9 VDDA, 10 PA0, 11 PA1, 12 PA2, 13 PA3, 14 PA4, 15 PA5, 16 PA6, 17 PA7, 18 PB0, 19 PB1, 20 PB2, 21 PB10, 22 PB11, 23 VSS, 24 VDD, 25 PB12, 26 PB13, 27 PB14, 28 PB15, 29 PA8, 30 PA9, 31 PA10, 32 PA11, 33 PA12, 34 PA13, 35 VSS hidden, 36 VDDIO2, 37 PA14, 38 PA15, 39 PB3, 40 PB4, 41 PB5, 42 PB6, 43 PB7, 44 BOOT0, 45 PB8, 46 PB9, 47 VSS hidden, 48 VDD

## STM32L051C8Ux
designator *  value STM32L051C8Ux  Reference: U
ki_keywords: Arm Cortex-M0+ STM32L0 STM32L0x1; ki_description: STMicroelectronics Arm Cortex-M0+ MCU, 64KB flash, 8KB RAM, 32 MHz, 1.65-3.6V, 37 GPIO, UFQFPN48; ki_fp_filters: QFN*1EP*7x7mm*P0.5mm*; Footprint: Package_DFN_QFN:QFN-48-1EP_7x7mm_P0.5mm_EP5.6x5.6mm; Datasheet: https://www.st.com/resource/en/datasheet/stm32l051c8.pdf
pins: 1 VDD, 2 PC13, 3 PC14, 4 PC15, 5 PH0, 6 PH1, 7 NRST, 8 VSSA, 9 VDDA, 10 PA0, 11 PA1, 12 PA2, 13 PA3, 14 PA4, 15 PA5, 16 PA6, 17 PA7, 18 PB0, 19 PB1, 20 PB2, 21 PB10, 22 PB11, 23 VSS, 24 VDD, 25 PB12, 26 PB13, 27 PB14, 28 PB15, 29 PA8, 30 PA9, 31 PA10, 32 PA11, 33 PA12, 34 PA13, 35 VSS hidden, 36 VDDIO2, 37 PA14, 38 PA15, 39 PB3, 40 PB4, 41 PB5, 42 PB6, 43 PB7, 44 BOOT0, 45 PB8, 46 PB9, 47 VSS hidden, 48 VDD, 49 VSS hidden

## STM32L051C_6-8_Tx
designator *  value STM32L051C_6-8_Tx  Reference: U
ki_keywords: Arm Cortex-M0+ STM32L0 STM32L0x1; ki_description: STMicroelectronics Arm Cortex-M0+ MCU, 32-64KB flash, 8KB RAM, 32 MHz, 1.65-3.6V, 37 GPIO, LQFP48; ki_fp_filters: LQFP*7x7mm*P0.5mm*; Footprint: Package_QFP:LQFP-48_7x7mm_P0.5mm; Datasheet: https://www.st.com/resource/en/datasheet/stm32l051c6.pdf
pins: 1 VDD, 2 PC13, 3 PC14, 4 PC15, 5 PH0, 6 PH1, 7 NRST, 8 VSSA, 9 VDDA, 10 PA0, 11 PA1, 12 PA2, 13 PA3, 14 PA4, 15 PA5, 16 PA6, 17 PA7, 18 PB0, 19 PB1, 20 PB2, 21 PB10, 22 PB11, 23 VSS, 24 VDD, 25 PB12, 26 PB13, 27 PB14, 28 PB15, 29 PA8, 30 PA9, 31 PA10, 32 PA11, 33 PA12, 34 PA13, 35 VSS hidden, 36 VDDIO2, 37 PA14, 38 PA15, 39 PB3, 40 PB4, 41 PB5, 42 PB6, 43 PB7, 44 BOOT0, 45 PB8, 46 PB9, 47 VSS hidden, 48 VDD

## STM32L051C_6-8_Ux
designator *  value STM32L051C_6-8_Ux  Reference: U
ki_keywords: Arm Cortex-M0+ STM32L0 STM32L0x1; ki_description: STMicroelectronics Arm Cortex-M0+ MCU, 32-64KB flash, 8KB RAM, 32 MHz, 1.65-3.6V, 37 GPIO, UFQFPN48; ki_fp_filters: QFN*1EP*7x7mm*P0.5mm*; Footprint: Package_DFN_QFN:QFN-48-1EP_7x7mm_P0.5mm_EP5.6x5.6mm; Datasheet: https://www.st.com/resource/en/datasheet/stm32l051c6.pdf
pins: 1 VDD, 2 PC13, 3 PC14, 4 PC15, 5 PH0, 6 PH1, 7 NRST, 8 VSSA, 9 VDDA, 10 PA0, 11 PA1, 12 PA2, 13 PA3, 14 PA4, 15 PA5, 16 PA6, 17 PA7, 18 PB0, 19 PB1, 20 PB2, 21 PB10, 22 PB11, 23 VSS, 24 VDD, 25 PB12, 26 PB13, 27 PB14, 28 PB15, 29 PA8, 30 PA9, 31 PA10, 32 PA11, 33 PA12, 34 PA13, 35 VSS hidden, 36 VDDIO2, 37 PA14, 38 PA15, 39 PB3, 40 PB4, 41 PB5, 42 PB6, 43 PB7, 44 BOOT0, 45 PB8, 46 PB9, 47 VSS hidden, 48 VDD, 49 VSS hidden

## STM32L051K6Tx
designator *  value STM32L051K6Tx  Reference: U
ki_keywords: Arm Cortex-M0+ STM32L0 STM32L0x1; ki_description: STMicroelectronics Arm Cortex-M0+ MCU, 32KB flash, 8KB RAM, 32 MHz, 1.65-3.6V, 25 GPIO, LQFP32; ki_fp_filters: LQFP*7x7mm*P0.8mm*; Footprint: Package_QFP:LQFP-32_7x7mm_P0.8mm; Datasheet: https://www.st.com/resource/en/datasheet/stm32l051k6.pdf
pins: 1 VDD, 2 PC14, 3 PC15, 4 NRST, 5 VDDA, 6 PA0, 7 PA1, 8 PA2, 9 PA3, 10 PA4, 11 PA5, 12 PA6, 13 PA7, 14 PB0, 15 PB1, 16 VSS, 17 VDD, 18 PA8, 19 PA9, 20 PA10, 21 PA11, 22 PA12, 23 PA13, 24 PA14, 25 PA15, 26 PB3, 27 PB4, 28 PB5, 29 PB6, 30 PB7, 31 BOOT0, 32 VSS hidden

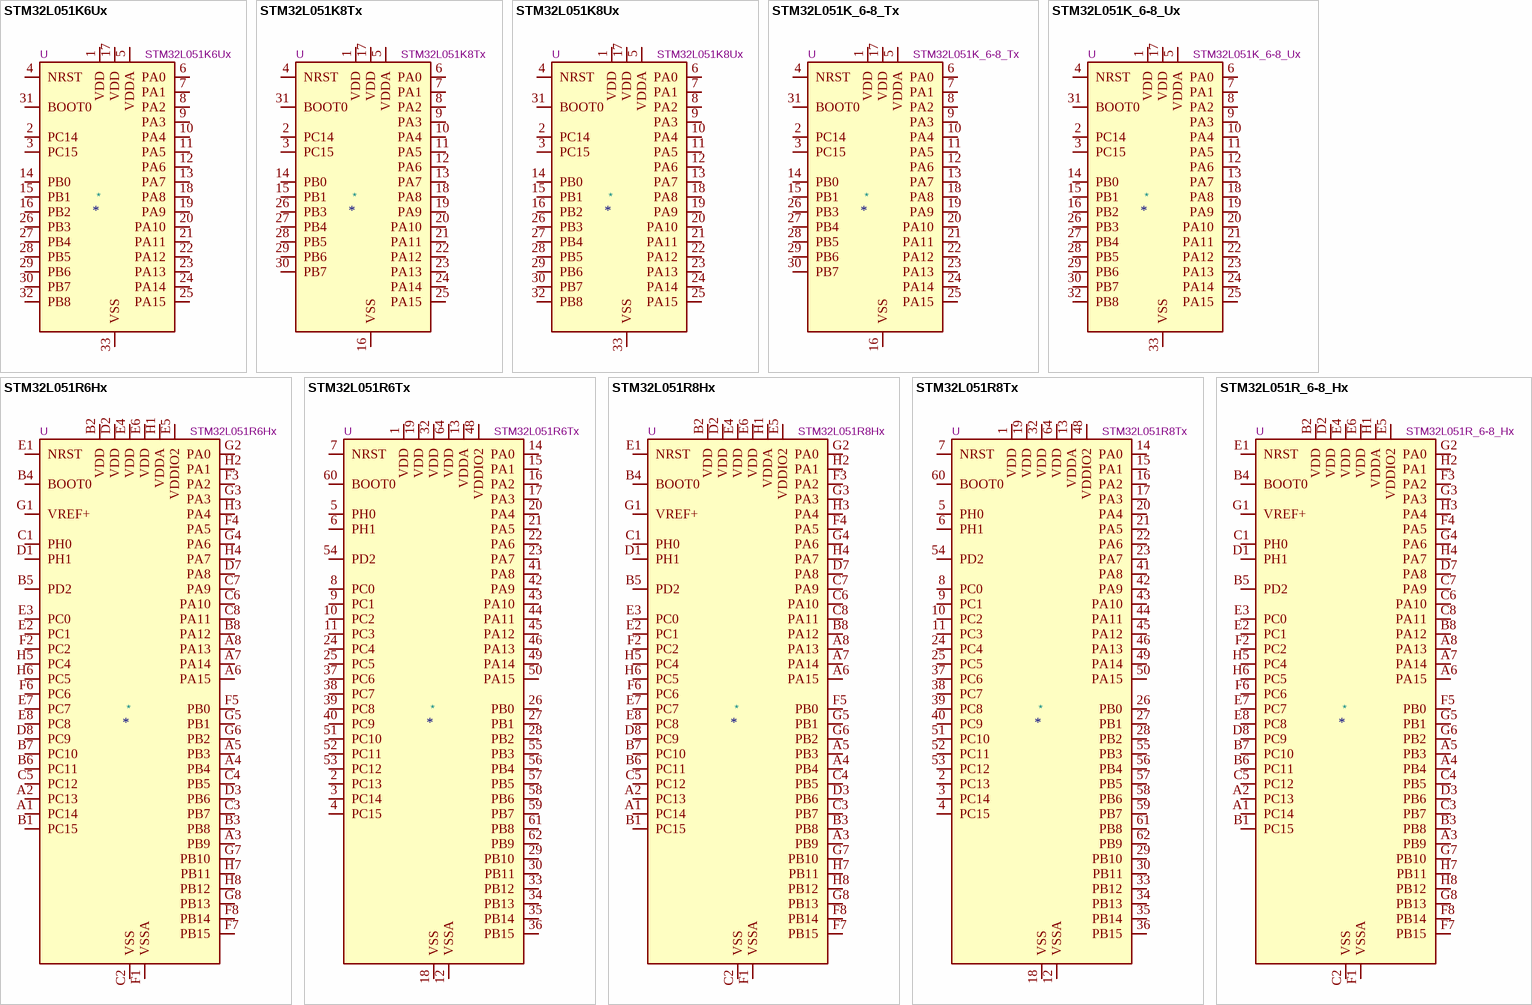
[diagram p4: symbols STM32L051K6Ux to STM32L051R_6-8_Hx]

## STM32L051K6Ux
designator *  value STM32L051K6Ux  Reference: U
ki_keywords: Arm Cortex-M0+ STM32L0 STM32L0x1; ki_description: STMicroelectronics Arm Cortex-M0+ MCU, 32KB flash, 8KB RAM, 32 MHz, 1.65-3.6V, 27 GPIO, UFQFPN32; ki_fp_filters: QFN*1EP*5x5mm*P0.5mm*; Footprint: Package_DFN_QFN:QFN-32-1EP_5x5mm_P0.5mm_EP3.45x3.45mm; Datasheet: https://www.st.com/resource/en/datasheet/stm32l051k6.pdf
pins: 1 VDD, 2 PC14, 3 PC15, 4 NRST, 5 VDDA, 6 PA0, 7 PA1, 8 PA2, 9 PA3, 10 PA4, 11 PA5, 12 PA6, 13 PA7, 14 PB0, 15 PB1, 16 PB2, 17 VDD, 18 PA8, 19 PA9, 20 PA10, 21 PA11, 22 PA12, 23 PA13, 24 PA14, 25 PA15, 26 PB3, 27 PB4, 28 PB5, 29 PB6, 30 PB7, 31 BOOT0, 32 PB8, 33 VSS

## STM32L051K8Tx
designator *  value STM32L051K8Tx  Reference: U
ki_keywords: Arm Cortex-M0+ STM32L0 STM32L0x1; ki_description: STMicroelectronics Arm Cortex-M0+ MCU, 64KB flash, 8KB RAM, 32 MHz, 1.65-3.6V, 25 GPIO, LQFP32; ki_fp_filters: LQFP*7x7mm*P0.8mm*; Footprint: Package_QFP:LQFP-32_7x7mm_P0.8mm; Datasheet: https://www.st.com/resource/en/datasheet/stm32l051k8.pdf
pins: 1 VDD, 2 PC14, 3 PC15, 4 NRST, 5 VDDA, 6 PA0, 7 PA1, 8 PA2, 9 PA3, 10 PA4, 11 PA5, 12 PA6, 13 PA7, 14 PB0, 15 PB1, 16 VSS, 17 VDD, 18 PA8, 19 PA9, 20 PA10, 21 PA11, 22 PA12, 23 PA13, 24 PA14, 25 PA15, 26 PB3, 27 PB4, 28 PB5, 29 PB6, 30 PB7, 31 BOOT0, 32 VSS hidden

## STM32L051K8Ux
designator *  value STM32L051K8Ux  Reference: U
ki_keywords: Arm Cortex-M0+ STM32L0 STM32L0x1; ki_description: STMicroelectronics Arm Cortex-M0+ MCU, 64KB flash, 8KB RAM, 32 MHz, 1.65-3.6V, 27 GPIO, UFQFPN32; ki_fp_filters: QFN*1EP*5x5mm*P0.5mm*; Footprint: Package_DFN_QFN:QFN-32-1EP_5x5mm_P0.5mm_EP3.45x3.45mm; Datasheet: https://www.st.com/resource/en/datasheet/stm32l051k8.pdf
pins: 1 VDD, 2 PC14, 3 PC15, 4 NRST, 5 VDDA, 6 PA0, 7 PA1, 8 PA2, 9 PA3, 10 PA4, 11 PA5, 12 PA6, 13 PA7, 14 PB0, 15 PB1, 16 PB2, 17 VDD, 18 PA8, 19 PA9, 20 PA10, 21 PA11, 22 PA12, 23 PA13, 24 PA14, 25 PA15, 26 PB3, 27 PB4, 28 PB5, 29 PB6, 30 PB7, 31 BOOT0, 32 PB8, 33 VSS